# Altium schematic symbol library SCH-51943_B_Library.SchLib: 230 symbols (part 1 of 2)
Pins are listed as number, name and electrical type; pins without a type are passive.

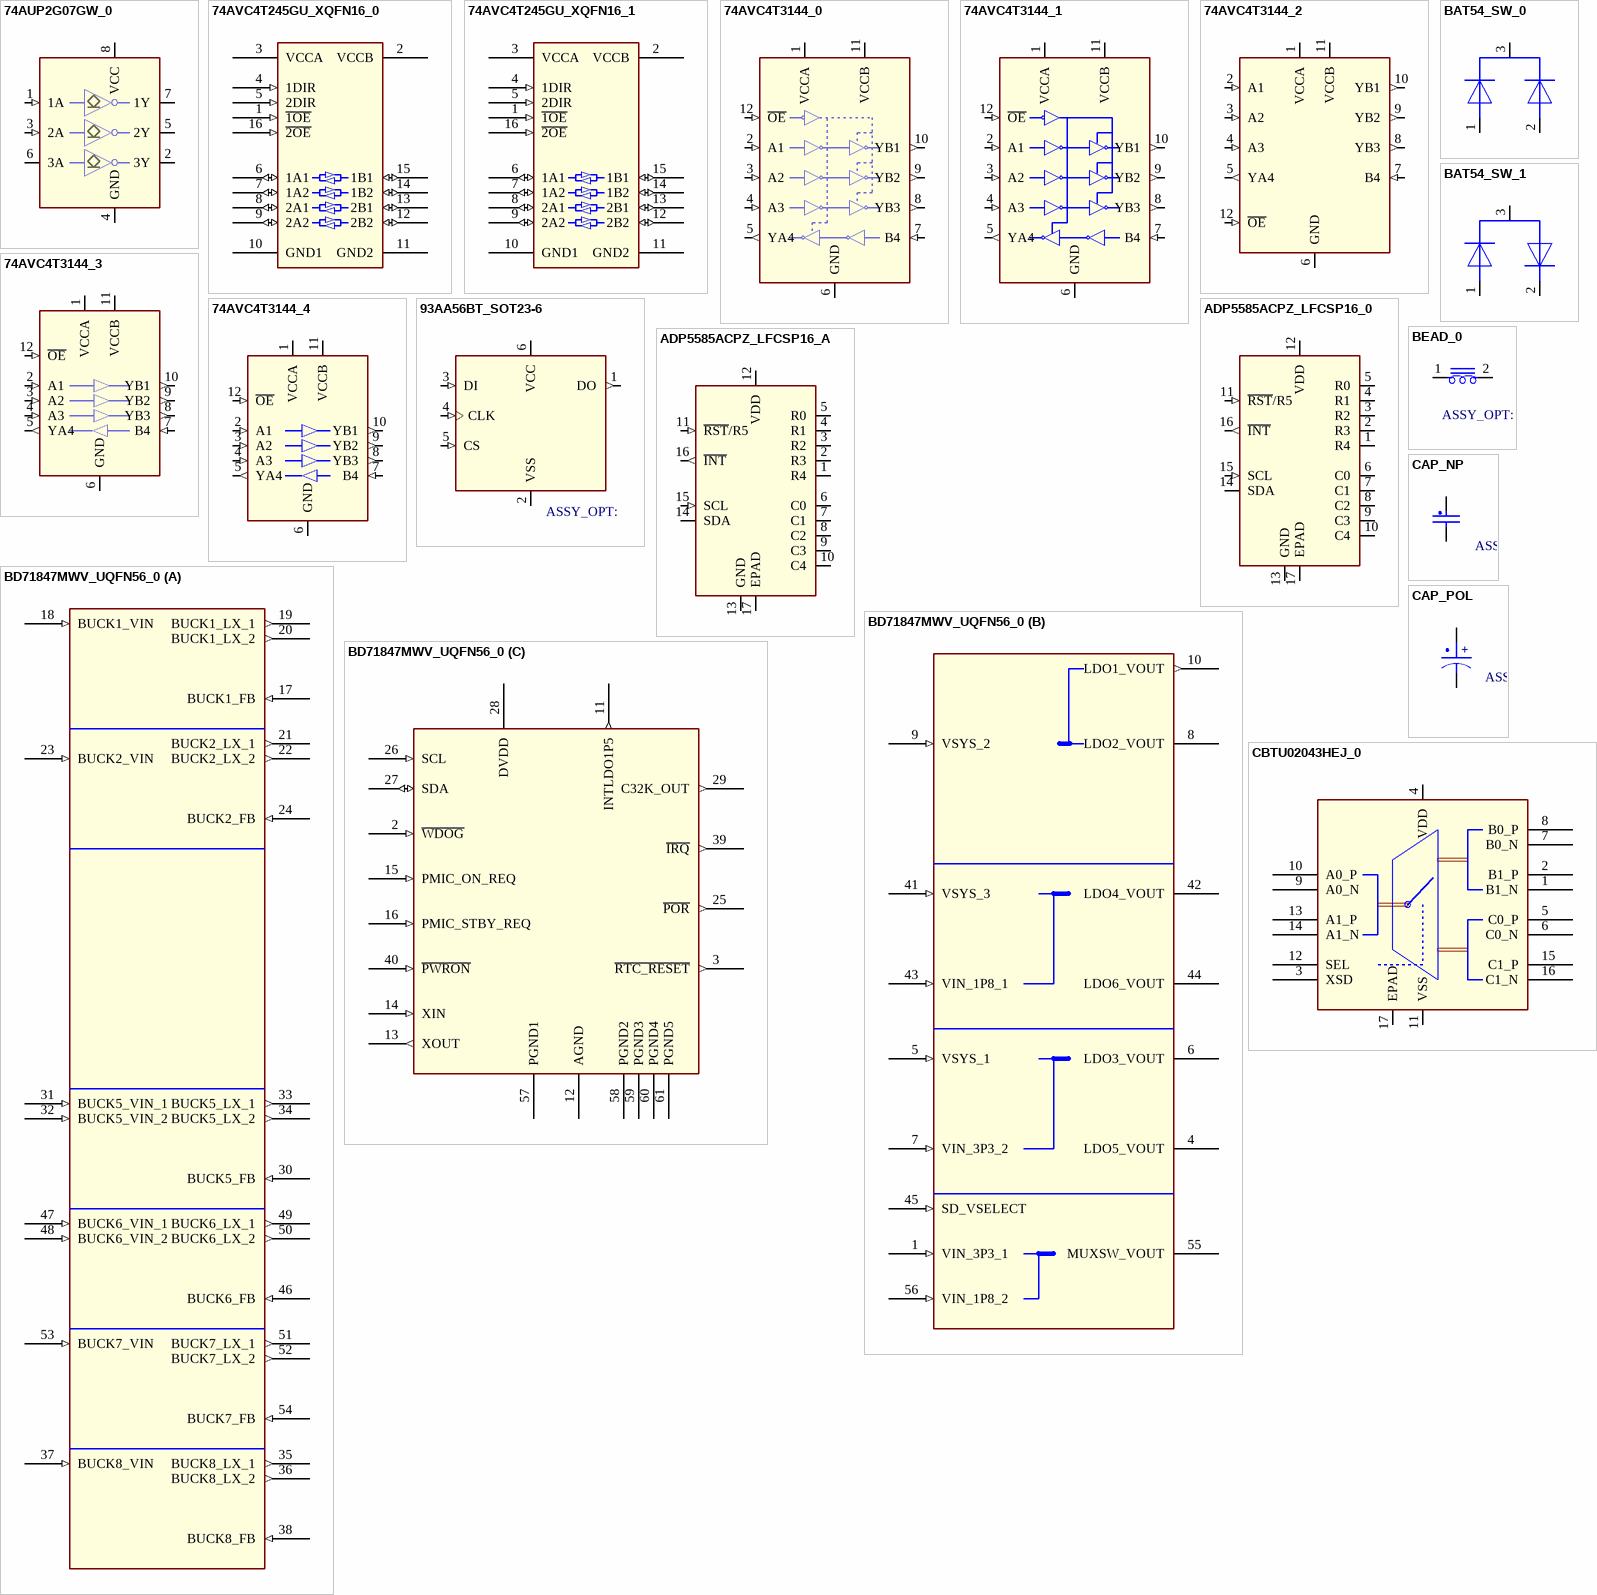
[diagram p0: symbols 74AUP2G07GW_0 to CBTU02043HEJ_0]

## 74AUP2G07GW_0
designator U?
CLASS: IC
footprint SOT363
pins: 1 1A (in), 2 3Y, 3 2A (in), 4 GND (power), 5 2Y, 6 3A, 7 1Y, 8 VCC

## 74AVC4T245GU_XQFN16_0
designator U?
CLASS: IC
pins: 1 ~{1OE} (in), 2 VCCB (power), 3 VCCA (power), 4 1DIR (in), 5 2DIR (in), 6 1A1 (io), 7 1A2 (io), 8 2A1 (io), 9 2A2 (io), 10 GND1 (power), 11 GND2 (power), 12 2B2 (io), 13 2B1 (io), 14 1B2 (io), 15 1B1 (io), 16 ~{2OE} (in)

## 74AVC4T245GU_XQFN16_1
designator U?
CLASS: IC
pins: 1 ~{1OE} (in), 2 VCCB (power), 3 VCCA (power), 4 1DIR (in), 5 2DIR (in), 6 1A1 (io), 7 1A2 (io), 8 2A1 (io), 9 2A2 (io), 10 GND1 (power), 11 GND2 (power), 12 2B2 (io), 13 2B1 (io), 14 1B2 (io), 15 1B1 (io), 16 ~{2OE} (in)

## 74AVC4T3144_0
designator U?
CLASS: IC
pins: 1 VCCA (power), 2 A1 (in), 3 A2 (in), 4 A3 (in), 5 YA4 (out), 6 GND (power), 7 B4 (in), 8 YB3 (out), 9 YB2 (out), 10 YB1 (out), 11 VCCB (power), 12 ~{OE} (in)

## 74AVC4T3144_1
designator U?
CLASS: IC
pins: 1 VCCA (power), 2 A1 (in), 3 A2 (in), 4 A3 (in), 5 YA4 (out), 6 GND (power), 7 B4 (in), 8 YB3 (out), 9 YB2 (out), 10 YB1 (out), 11 VCCB (power), 12 ~{OE} (in)

## 74AVC4T3144_2
designator U?
CLASS: IC
pins: 1 VCCA (power), 2 A1 (in), 3 A2 (in), 4 A3 (in), 5 YA4 (out), 6 GND (power), 7 B4 (in), 8 YB3 (out), 9 YB2 (out), 10 YB1 (out), 11 VCCB (power), 12 ~{OE} (in)

## 74AVC4T3144_3
designator U?
CLASS: IC
pins: 1 VCCA (power), 2 A1 (in), 3 A2 (in), 4 A3 (in), 5 YA4 (out), 6 GND (power), 7 B4 (in), 8 YB3 (out), 9 YB2 (out), 10 YB1 (out), 11 VCCB (power), 12 ~{OE} (in)

## 74AVC4T3144_4
designator U?
CLASS: IC
pins: 1 VCCA (power), 2 A1 (in), 3 A2 (in), 4 A3 (in), 5 YA4 (out), 6 GND (power), 7 B4 (in), 8 YB3 (out), 9 YB2 (out), 10 YB1 (out), 11 VCCB (power), 12 ~{OE} (in)

## 93AA56BT_SOT23-6
designator U?
CLASS: IC
pins: 1 DO (out), 2 VSS (power), 3 DI (in), 4 CLK (in), 5 CS (in), 6 VCC (power)

## ADP5585ACPZ_LFCSP16_0
designator U?
CLASS: IC
pins: 1 R4 (io), 2 R3 (io), 3 R2 (io), 4 R1 (io), 5 R0 (io), 6 C0 (io), 7 C1 (io), 8 C2 (io), 9 C3 (io), 10 C4 (io), 11 ~{RST}/R5 (in), 12 VDD (power), 13 GND (power), 14 SDA (io), 15 SCL (in), 16 ~{INT} (out), 17 EPAD

## ADP5585ACPZ_LFCSP16_A
designator U?
CLASS: IC
pins: 1 R4 (io), 2 R3 (io), 3 R2 (io), 4 R1 (io), 5 R0 (io), 6 C0 (io), 7 C1 (io), 8 C2 (io), 9 C3 (io), 10 C4 (io), 11 ~{RST}/R5 (in), 12 VDD (power), 13 GND (power), 14 SDA (io), 15 SCL (in), 16 ~{INT} (out), 17 EPAD

## BAT54_SW_0
designator D?
CLASS: IC
pins: 1 ANODE, 2 CATHODE, 3 CATHODE/ANODE

## BAT54_SW_1
designator D?
CLASS: IC
pins: 1 ANODE, 2 CATHODE, 3 CATHODE/ANODE

## BD71847MWV_UQFN56_0
designator U?
CLASS: IC
footprint BD71837MWV
part A pins: 17 BUCK1_FB (in), 18 BUCK1_VIN (in), 19 BUCK1_LX_1 (out), 20 BUCK1_LX_2 (out), 21 BUCK2_LX_1 (out), 22 BUCK2_LX_2 (out), 23 BUCK2_VIN (in), 24 BUCK2_FB (in), 30 BUCK5_FB (in), 31 BUCK5_VIN_1 (in), 32 BUCK5_VIN_2 (in), 33 BUCK5_LX_1 (out), 34 BUCK5_LX_2 (out), 35 BUCK8_LX_1 (out), 36 BUCK8_LX_2 (out), 37 BUCK8_VIN (in), 38 BUCK8_FB (in), 46 BUCK6_FB (in), 47 BUCK6_VIN_1 (in), 48 BUCK6_VIN_2 (in), 49 BUCK6_LX_1 (out), 50 BUCK6_LX_2 (out), 51 BUCK7_LX_1 (out), 52 BUCK7_LX_2 (out), 53 BUCK7_VIN (in), 54 BUCK7_FB (in)
part B pins: 1 VIN_3P3_1 (in), 4 LDO5_VOUT (power), 5 VSYS_1 (in), 6 LDO3_VOUT (power), 7 VIN_3P3_2 (in), 8 LDO2_VOUT (power), 9 VSYS_2 (in), 10 LDO1_VOUT (out), 41 VSYS_3 (in), 42 LDO4_VOUT (power), 43 VIN_1P8_1 (in), 44 LDO6_VOUT (power), 45 SD_VSELECT (in), 55 MUXSW_VOUT (power), 56 VIN_1P8_2 (in)
part C pins: 2 ~{WDOG} (in), 3 ~{RTC_RESET} (out), 11 INTLDO1P5 (out), 12 AGND (power), 13 XOUT (out), 14 XIN (in), 15 PMIC_ON_REQ (in), 16 PMIC_STBY_REQ (in), 25 ~{POR} (out), 26 SCL (in), 27 SDA (io), 28 DVDD (power), 29 C32K_OUT (out), 39 ~{IRQ} (out), 40 ~{PWRON} (in), 57 PGND1 (power), 58 PGND2 (power), 59 PGND3 (power), 60 PGND4 (power), 61 PGND5 (power)

## BEAD_0
designator L?
CLASS: DISCRETE
pins: 1, 2

## CAP_NP
designator C?
CLASS: DISCRETE
pins: 1, 2

## CAP_POL
designator C?
CLASS: DISCRETE
pins: 1, 2
text: +

## CBTU02043HEJ_0
designator U?
CLASS: IC
pins: 1 B1_N, 2 B1_P, 3 XSD, 4 VDD (power), 5 C0_P, 6 C0_N, 7 B0_N, 8 B0_P, 9 A0_N, 10 A0_P, 11 VSS (power), 12 SEL, 13 A1_P, 14 A1_N, 15 C1_P, 16 C1_N, 17 EPAD (power)

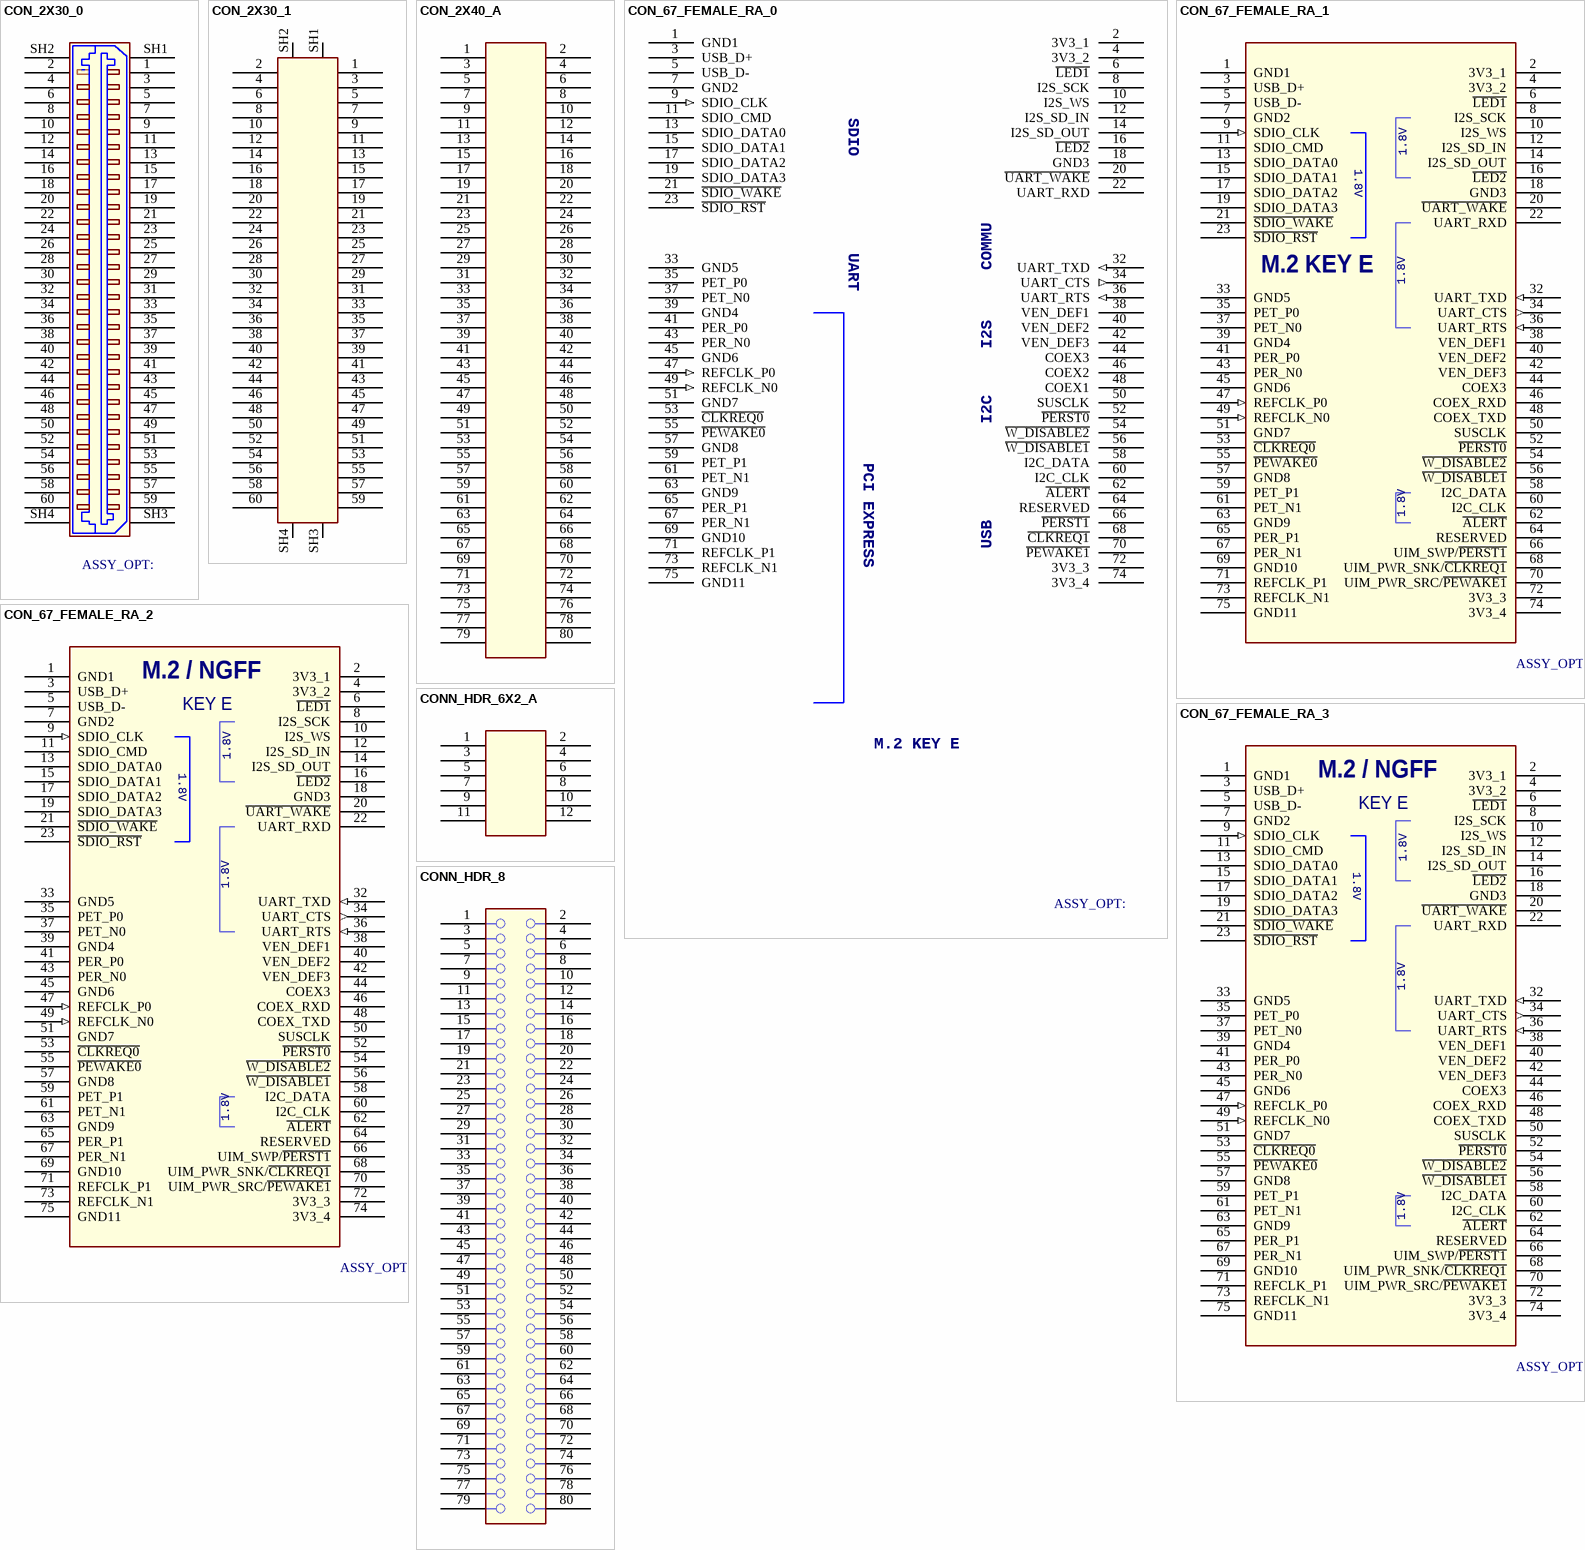
[diagram p1: symbols CON_2X30_0 to CONN_HDR_8]

## CON_2X30_0
designator J?
CLASS: IO
pins: 1, 2, 3, 4, 5, 6, 7, 8, 9, 10, 11, 12, 13, 14, 15, 16, 17, 18, 19, 20, 21, 22, 23, 24, 25, 26, 27, 28, 29, 30, 31, 32, 33, 34, 35, 36, 37, 38, 39, 40, 41, 42, 43, 44, 45, 46, 47, 48, 49, 50, 51, 52, 53, 54, 55, 56, 57, 58, 59, 60, SH1, SH2, SH3, SH4

## CON_2X30_1
designator J?
CLASS: IO
pins: 1, 2, 3, 4, 5, 6, 7, 8, 9, 10, 11, 12, 13, 14, 15, 16, 17, 18, 19, 20, 21, 22, 23, 24, 25, 26, 27, 28, 29, 30, 31, 32, 33, 34, 35, 36, 37, 38, 39, 40, 41, 42, 43, 44, 45, 46, 47, 48, 49, 50, 51, 52, 53, 54, 55, 56, 57, 58, 59, 60, SH1, SH2, SH3, SH4

## CON_2X40_A
designator J?
CLASS: IO
pins: 1 A1, 2 B1, 3 A2, 4 B2, 5 A3, 6 B3, 7 A4, 8 B4, 9 A5, 10 B5, 11 A6, 12 B6, 13 A7, 14 B7, 15 A8, 16 B8, 17 A9, 18 B9, 19 A10, 20 B10, 21 A11, 22 B11, 23 A12, 24 B12, 25 A13, 26 B13, 27 A14, 28 B14, 29 A15, 30 B15, 31 A16, 32 B16, 33 A17, 34 B17, 35 A18, 36 B18, 37 A19, 38 B19, 39 A20, 40 B20, 41 A21, 42 B21, 43 A22, 44 B22, 45 A23, 46 B23, 47 A24, 48 B24, 49 A25, 50 B25, 51 A26, 52 B26, 53 A27, 54 B27, 55 A28, 56 B28, 57 A29, 58 B29, 59 A30, 60 B30, 61 A31, 62 B31, 63 A32, 64 B32, 65 A33, 66 B33, 67 A34, 68 B34, 69 A35, 70 B35, 71 A36, 72 B36, 73 A37, 74 B37, 75 A38, 76 B38, 77 A39, 78 B39, 79 A40, 80 B40

## CON_67_FEMALE_RA_0
designator J?
CLASS: IO
pins: 1 GND1 (power), 2 3V3_1 (power), 3 USB_D+, 4 3V3_2 (power), 5 USB_D-, 6 ~{LED1}, 7 GND2 (power), 8 I2S_SCK, 9 SDIO_CLK (in), 10 I2S_WS, 11 SDIO_CMD, 12 I2S_SD_IN, 13 SDIO_DATA0, 14 I2S_SD_OUT, 15 SDIO_DATA1, 16 ~{LED2}, 17 SDIO_DATA2, 18 GND3 (power), 19 SDIO_DATA3, 20 ~{UART_WAKE}, 21 ~{SDIO_WAKE}, 22 UART_RXD, 23 ~{SDIO_RST}, 32 UART_TXD (in), 33 GND5 (power), 34 UART_CTS (out), 35 PET_P0, 36 UART_RTS (in), 37 PET_N0, 38 VEN_DEF1, 39 GND4 (power), 40 VEN_DEF2, 41 PER_P0, 42 VEN_DEF3, 43 PER_N0, 44 COEX3, 45 GND6 (power), 46 COEX2, 47 REFCLK_P0 (in), 48 COEX1, 49 REFCLK_N0 (in), 50 SUSCLK, 51 GND7 (power), 52 ~{PERST0}, 53 ~{CLKREQ0}, 54 ~{W_DISABLE2}, 55 ~{PEWAKE0}, 56 ~{W_DISABLE1}, 57 GND8 (power), 58 I2C_DATA, 59 PET_P1, 60 I2C_CLK, 61 PET_N1, 62 ~{ALERT}, 63 GND9 (power), 64 RESERVED, 65 PER_P1, 66 ~{PERST1}, 67 PER_N1, 68 ~{CLKREQ1}, 69 GND10 (power), 70 ~{PEWAKE1}, 71 REFCLK_P1, 72 3V3_3 (power), 73 REFCLK_N1, 74 3V3_4 (power), 75 GND11 (power)
text: SDIO; UART; COMMU; I2S; I2C; PCI EXPRESS; USB; M.2 KEY E

## CON_67_FEMALE_RA_1
designator J?
CLASS: IO
pins: 1 GND1 (power), 2 3V3_1 (power), 3 USB_D+, 4 3V3_2 (power), 5 USB_D-, 6 ~{LED1}, 7 GND2 (power), 8 I2S_SCK, 9 SDIO_CLK (in), 10 I2S_WS, 11 SDIO_CMD, 12 I2S_SD_IN, 13 SDIO_DATA0, 14 I2S_SD_OUT, 15 SDIO_DATA1, 16 ~{LED2}, 17 SDIO_DATA2, 18 GND3 (power), 19 SDIO_DATA3, 20 ~{UART_WAKE}, 21 ~{SDIO_WAKE}, 22 UART_RXD, 23 ~{SDIO_RST}, 32 UART_TXD (in), 33 GND5 (power), 34 UART_CTS (out), 35 PET_P0, 36 UART_RTS (in), 37 PET_N0, 38 VEN_DEF1, 39 GND4 (power), 40 VEN_DEF2, 41 PER_P0, 42 VEN_DEF3, 43 PER_N0, 44 COEX3, 45 GND6 (power), 46 COEX_RXD, 47 REFCLK_P0 (in), 48 COEX_TXD, 49 REFCLK_N0 (in), 50 SUSCLK, 51 GND7 (power), 52 ~{PERST0}, 53 ~{CLKREQ0}, 54 ~{W_DISABLE2}, 55 ~{PEWAKE0}, 56 ~{W_DISABLE1}, 57 GND8 (power), 58 I2C_DATA, 59 PET_P1, 60 I2C_CLK, 61 PET_N1, 62 ~{ALERT}, 63 GND9 (power), 64 RESERVED, 65 PER_P1, 66 UIM_SWP/~{PERST1}, 67 PER_N1, 68 UIM_PWR_SNK/~{CLKREQ1}, 69 GND10 (power), 70 UIM_PWR_SRC/~{PEWAKE1}, 71 REFCLK_P1, 72 3V3_3 (power), 73 REFCLK_N1, 74 3V3_4 (power), 75 GND11 (power)
text: 1.8V; M.2 KEY E

## CON_67_FEMALE_RA_2
designator J?
CLASS: IO
pins: 1 GND1 (power), 2 3V3_1 (power), 3 USB_D+, 4 3V3_2 (power), 5 USB_D-, 6 ~{LED1}, 7 GND2 (power), 8 I2S_SCK, 9 SDIO_CLK (in), 10 I2S_WS, 11 SDIO_CMD, 12 I2S_SD_IN, 13 SDIO_DATA0, 14 I2S_SD_OUT, 15 SDIO_DATA1, 16 ~{LED2}, 17 SDIO_DATA2, 18 GND3 (power), 19 SDIO_DATA3, 20 ~{UART_WAKE}, 21 ~{SDIO_WAKE}, 22 UART_RXD, 23 ~{SDIO_RST}, 32 UART_TXD (in), 33 GND5 (power), 34 UART_CTS (out), 35 PET_P0, 36 UART_RTS (in), 37 PET_N0, 38 VEN_DEF1, 39 GND4 (power), 40 VEN_DEF2, 41 PER_P0, 42 VEN_DEF3, 43 PER_N0, 44 COEX3, 45 GND6 (power), 46 COEX_RXD, 47 REFCLK_P0 (in), 48 COEX_TXD, 49 REFCLK_N0 (in), 50 SUSCLK, 51 GND7 (power), 52 ~{PERST0}, 53 ~{CLKREQ0}, 54 ~{W_DISABLE2}, 55 ~{PEWAKE0}, 56 ~{W_DISABLE1}, 57 GND8 (power), 58 I2C_DATA, 59 PET_P1, 60 I2C_CLK, 61 PET_N1, 62 ~{ALERT}, 63 GND9 (power), 64 RESERVED, 65 PER_P1, 66 UIM_SWP/~{PERST1}, 67 PER_N1, 68 UIM_PWR_SNK/~{CLKREQ1}, 69 GND10 (power), 70 UIM_PWR_SRC/~{PEWAKE1}, 71 REFCLK_P1, 72 3V3_3 (power), 73 REFCLK_N1, 74 3V3_4 (power), 75 GND11 (power)
text: M.2 / NGFF; KEY E; 1.8V

## CON_67_FEMALE_RA_3
designator J?
CLASS: IO
pins: 1 GND1 (power), 2 3V3_1 (power), 3 USB_D+, 4 3V3_2 (power), 5 USB_D-, 6 ~{LED1}, 7 GND2 (power), 8 I2S_SCK, 9 SDIO_CLK (in), 10 I2S_WS, 11 SDIO_CMD, 12 I2S_SD_IN, 13 SDIO_DATA0, 14 I2S_SD_OUT, 15 SDIO_DATA1, 16 ~{LED2}, 17 SDIO_DATA2, 18 GND3 (power), 19 SDIO_DATA3, 20 ~{UART_WAKE}, 21 ~{SDIO_WAKE}, 22 UART_RXD, 23 ~{SDIO_RST}, 32 UART_TXD (in), 33 GND5 (power), 34 UART_CTS (out), 35 PET_P0, 36 UART_RTS (in), 37 PET_N0, 38 VEN_DEF1, 39 GND4 (power), 40 VEN_DEF2, 41 PER_P0, 42 VEN_DEF3, 43 PER_N0, 44 COEX3, 45 GND6 (power), 46 COEX_RXD, 47 REFCLK_P0 (in), 48 COEX_TXD, 49 REFCLK_N0 (in), 50 SUSCLK, 51 GND7 (power), 52 ~{PERST0}, 53 ~{CLKREQ0}, 54 ~{W_DISABLE2}, 55 ~{PEWAKE0}, 56 ~{W_DISABLE1}, 57 GND8 (power), 58 I2C_DATA, 59 PET_P1, 60 I2C_CLK, 61 PET_N1, 62 ~{ALERT}, 63 GND9 (power), 64 RESERVED, 65 PER_P1, 66 UIM_SWP/~{PERST1}, 67 PER_N1, 68 UIM_PWR_SNK/~{CLKREQ1}, 69 GND10 (power), 70 UIM_PWR_SRC/~{PEWAKE1}, 71 REFCLK_P1, 72 3V3_3 (power), 73 REFCLK_N1, 74 3V3_4 (power), 75 GND11 (power)
text: M.2 / NGFF; KEY E; 1.8V

## CONN_HDR_6X2_A
designator J?
CLASS: IO
pins: 1 A1, 2 B1, 3 A2, 4 B2, 5 A3, 6 B3, 7 A4, 8 B4, 9 A5, 10 B5, 11 A6, 12 B6

## CONN_HDR_8
designator J?
CLASS: IO
pins: 1 A1, 2 B1, 3 A2, 4 B2, 5 A3, 6 B3, 7 A4, 8 B4, 9 A5, 10 B5, 11 A6, 12 B6, 13 A7, 14 B7, 15 A8, 16 B8, 17 A9, 18 B9, 19 A10, 20 B10, 21 A11, 22 B11, 23 A12, 24 B12, 25 A13, 26 B13, 27 A14, 28 B14, 29 A15, 30 B15, 31 A16, 32 B16, 33 A17, 34 B17, 35 A18, 36 B18, 37 A19, 38 B19, 39 A20, 40 B20, 41 A21, 42 B21, 43 A22, 44 B22, 45 A23, 46 B23, 47 A24, 48 B24, 49 A25, 50 B25, 51 A26, 52 B26, 53 A27, 54 B27, 55 A28, 56 B28, 57 A29, 58 B29, 59 A30, 60 B30, 61 A31, 62 B31, 63 A32, 64 B32, 65 A33, 66 B33, 67 A34, 68 B34, 69 A35, 70 B35, 71 A36, 72 B36, 73 A37, 74 B37, 75 A38, 76 B38, 77 A39, 78 B39, 79 A40, 80 B40

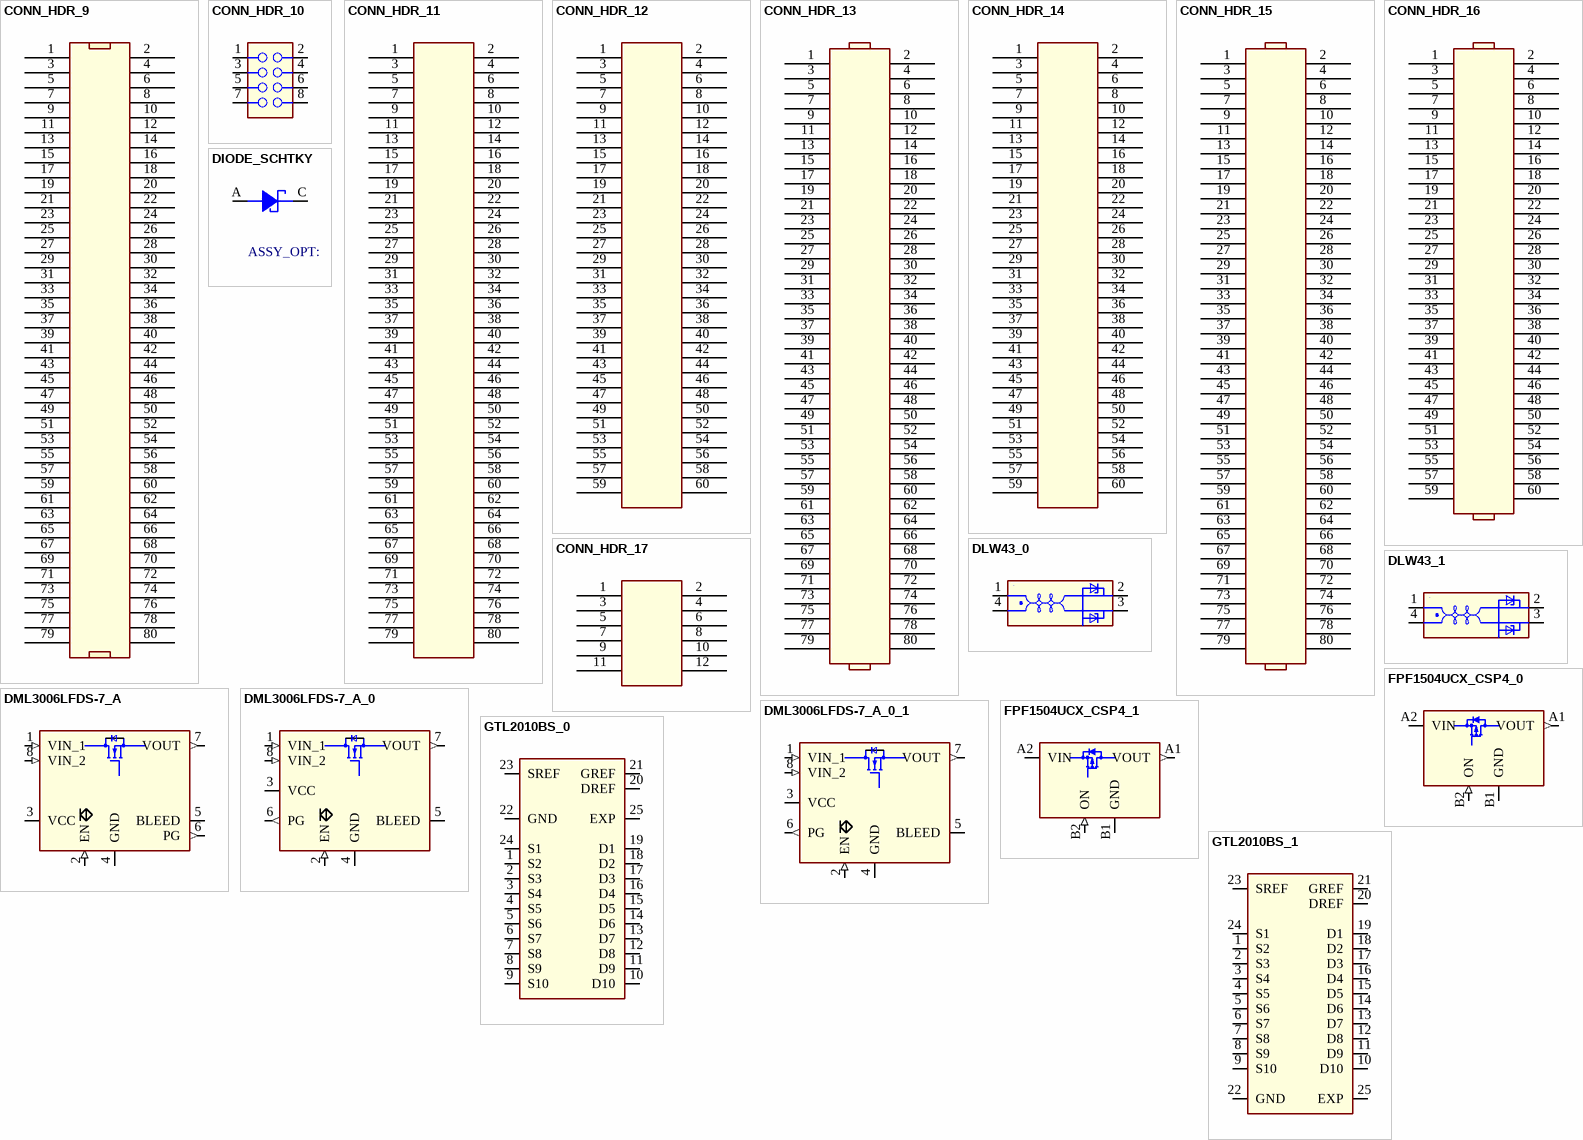
[diagram p2: symbols CONN_HDR_9 to GTL2010BS_1]

## CONN_HDR_9
designator J?
CLASS: IO
pins: 1 A1, 2 B1, 3 A2, 4 B2, 5 A3, 6 B3, 7 A4, 8 B4, 9 A5, 10 B5, 11 A6, 12 B6, 13 A7, 14 B7, 15 A8, 16 B8, 17 A9, 18 B9, 19 A10, 20 B10, 21 A11, 22 B11, 23 A12, 24 B12, 25 A13, 26 B13, 27 A14, 28 B14, 29 A15, 30 B15, 31 A16, 32 B16, 33 A17, 34 B17, 35 A18, 36 B18, 37 A19, 38 B19, 39 A20, 40 B20, 41 A21, 42 B21, 43 A22, 44 B22, 45 A23, 46 B23, 47 A24, 48 B24, 49 A25, 50 B25, 51 A26, 52 B26, 53 A27, 54 B27, 55 A28, 56 B28, 57 A29, 58 B29, 59 A30, 60 B30, 61 A31, 62 B31, 63 A32, 64 B32, 65 A33, 66 B33, 67 A34, 68 B34, 69 A35, 70 B35, 71 A36, 72 B36, 73 A37, 74 B37, 75 A38, 76 B38, 77 A39, 78 B39, 79 A40, 80 B40

## CONN_HDR_10
designator J?
CLASS: IO
pins: 1, 2, 3, 4, 5, 6, 7, 8

## CONN_HDR_11
designator J?
CLASS: IO
pins: 1 A1, 2 B1, 3 A2, 4 B2, 5 A3, 6 B3, 7 A4, 8 B4, 9 A5, 10 B5, 11 A6, 12 B6, 13 A7, 14 B7, 15 A8, 16 B8, 17 A9, 18 B9, 19 A10, 20 B10, 21 A11, 22 B11, 23 A12, 24 B12, 25 A13, 26 B13, 27 A14, 28 B14, 29 A15, 30 B15, 31 A16, 32 B16, 33 A17, 34 B17, 35 A18, 36 B18, 37 A19, 38 B19, 39 A20, 40 B20, 41 A21, 42 B21, 43 A22, 44 B22, 45 A23, 46 B23, 47 A24, 48 B24, 49 A25, 50 B25, 51 A26, 52 B26, 53 A27, 54 B27, 55 A28, 56 B28, 57 A29, 58 B29, 59 A30, 60 B30, 61 A31, 62 B31, 63 A32, 64 B32, 65 A33, 66 B33, 67 A34, 68 B34, 69 A35, 70 B35, 71 A36, 72 B36, 73 A37, 74 B37, 75 A38, 76 B38, 77 A39, 78 B39, 79 A40, 80 B40

## CONN_HDR_12
designator J?
CLASS: IO
pins: 1 A1, 2 B1, 3 A2, 4 B2, 5 A3, 6 B3, 7 A4, 8 B4, 9 A5, 10 B5, 11 A6, 12 B6, 13 A7, 14 B7, 15 A8, 16 B8, 17 A9, 18 B9, 19 A10, 20 B10, 21 A11, 22 B11, 23 A12, 24 B12, 25 A13, 26 B13, 27 A14, 28 B14, 29 A15, 30 B15, 31 A16, 32 B16, 33 A17, 34 B17, 35 A18, 36 B18, 37 A19, 38 B19, 39 A20, 40 B20, 41 A21, 42 B21, 43 A22, 44 B22, 45 A23, 46 B23, 47 A24, 48 B24, 49 A25, 50 B25, 51 A26, 52 B26, 53 A27, 54 B27, 55 A28, 56 B28, 57 A29, 58 B29, 59 A30, 60 B30

## CONN_HDR_13
designator J?
CLASS: IO
pins: 1 A1, 2 B1, 3 A2, 4 B2, 5 A3, 6 B3, 7 A4, 8 B4, 9 A5, 10 B5, 11 A6, 12 B6, 13 A7, 14 B7, 15 A8, 16 B8, 17 A9, 18 B9, 19 A10, 20 B10, 21 A11, 22 B11, 23 A12, 24 B12, 25 A13, 26 B13, 27 A14, 28 B14, 29 A15, 30 B15, 31 A16, 32 B16, 33 A17, 34 B17, 35 A18, 36 B18, 37 A19, 38 B19, 39 A20, 40 B20, 41 A21, 42 B21, 43 A22, 44 B22, 45 A23, 46 B23, 47 A24, 48 B24, 49 A25, 50 B25, 51 A26, 52 B26, 53 A27, 54 B27, 55 A28, 56 B28, 57 A29, 58 B29, 59 A30, 60 B30, 61 A31, 62 B31, 63 A32, 64 B32, 65 A33, 66 B33, 67 A34, 68 B34, 69 A35, 70 B35, 71 A36, 72 B36, 73 A37, 74 B37, 75 A38, 76 B38, 77 A39, 78 B39, 79 A40, 80 B40

## CONN_HDR_14
designator J?
CLASS: IO
pins: 1 A1, 2 B1, 3 A2, 4 B2, 5 A3, 6 B3, 7 A4, 8 B4, 9 A5, 10 B5, 11 A6, 12 B6, 13 A7, 14 B7, 15 A8, 16 B8, 17 A9, 18 B9, 19 A10, 20 B10, 21 A11, 22 B11, 23 A12, 24 B12, 25 A13, 26 B13, 27 A14, 28 B14, 29 A15, 30 B15, 31 A16, 32 B16, 33 A17, 34 B17, 35 A18, 36 B18, 37 A19, 38 B19, 39 A20, 40 B20, 41 A21, 42 B21, 43 A22, 44 B22, 45 A23, 46 B23, 47 A24, 48 B24, 49 A25, 50 B25, 51 A26, 52 B26, 53 A27, 54 B27, 55 A28, 56 B28, 57 A29, 58 B29, 59 A30, 60 B30

## CONN_HDR_15
designator J?
CLASS: IO
pins: 1 A1, 2 B1, 3 A2, 4 B2, 5 A3, 6 B3, 7 A4, 8 B4, 9 A5, 10 B5, 11 A6, 12 B6, 13 A7, 14 B7, 15 A8, 16 B8, 17 A9, 18 B9, 19 A10, 20 B10, 21 A11, 22 B11, 23 A12, 24 B12, 25 A13, 26 B13, 27 A14, 28 B14, 29 A15, 30 B15, 31 A16, 32 B16, 33 A17, 34 B17, 35 A18, 36 B18, 37 A19, 38 B19, 39 A20, 40 B20, 41 A21, 42 B21, 43 A22, 44 B22, 45 A23, 46 B23, 47 A24, 48 B24, 49 A25, 50 B25, 51 A26, 52 B26, 53 A27, 54 B27, 55 A28, 56 B28, 57 A29, 58 B29, 59 A30, 60 B30, 61 A31, 62 B31, 63 A32, 64 B32, 65 A33, 66 B33, 67 A34, 68 B34, 69 A35, 70 B35, 71 A36, 72 B36, 73 A37, 74 B37, 75 A38, 76 B38, 77 A39, 78 B39, 79 A40, 80 B40

## CONN_HDR_16
designator J?
CLASS: IO
pins: 1 A1, 2 B1, 3 A2, 4 B2, 5 A3, 6 B3, 7 A4, 8 B4, 9 A5, 10 B5, 11 A6, 12 B6, 13 A7, 14 B7, 15 A8, 16 B8, 17 A9, 18 B9, 19 A10, 20 B10, 21 A11, 22 B11, 23 A12, 24 B12, 25 A13, 26 B13, 27 A14, 28 B14, 29 A15, 30 B15, 31 A16, 32 B16, 33 A17, 34 B17, 35 A18, 36 B18, 37 A19, 38 B19, 39 A20, 40 B20, 41 A21, 42 B21, 43 A22, 44 B22, 45 A23, 46 B23, 47 A24, 48 B24, 49 A25, 50 B25, 51 A26, 52 B26, 53 A27, 54 B27, 55 A28, 56 B28, 57 A29, 58 B29, 59 A30, 60 B30

## CONN_HDR_17
designator J?
CLASS: IO
pins: 1 A1, 2 B1, 3 A2, 4 B2, 5 A3, 6 B3, 7 A4, 8 B4, 9 A5, 10 B5, 11 A6, 12 B6

## DIODE_SCHTKY
designator D?
CLASS: IC
pins: A, C

## DLW43_0
designator L?
CLASS: DISCRETE
pins: 1, 2, 3, 4

## DLW43_1
designator L?
CLASS: DISCRETE
pins: 1, 2, 3, 4

## DML3006LFDS-7_A
designator U?
CLASS: IC
pins: 1 VIN_1 (in), 2 EN (in), 3 VCC (power), 4 GND (power), 5 BLEED, 6 PG (out), 7 VOUT (out), 8 VIN_2 (in)

## DML3006LFDS-7_A_0
designator U?
CLASS: IC
pins: 1 VIN_1 (in), 2 EN (in), 3 VCC (power), 4 GND (power), 5 BLEED, 6 PG (out), 7 VOUT (out), 8 VIN_2 (in)

## DML3006LFDS-7_A_0_1
designator U?
CLASS: IC
pins: 1 VIN_1 (in), 2 EN (in), 3 VCC (power), 4 GND (power), 5 BLEED, 6 PG (out), 7 VOUT (out), 8 VIN_2 (in)

## FPF1504UCX_CSP4_0
designator U?
CLASS: IC
pins: A1 VOUT (out), A2 VIN (power), B1 GND (power), B2 ON (in)

## FPF1504UCX_CSP4_1
designator U?
CLASS: IC
pins: A1 VOUT (out), A2 VIN (power), B1 GND (power), B2 ON (in)

## GTL2010BS_0
designator U?
CLASS: IC
pins: 1 S2 (io), 2 S3 (io), 3 S4 (io), 4 S5 (io), 5 S6 (io), 6 S7 (io), 7 S8 (io), 8 S9 (io), 9 S10 (io), 10 D10 (io), 11 D9 (io), 12 D8 (io), 13 D7 (io), 14 D6 (io), 15 D5 (io), 16 D4 (io), 17 D3 (io), 18 D2 (io), 19 D1 (io), 20 DREF, 21 GREF, 22 GND (power), 23 SREF, 24 S1 (io), 25 EXP (power)

## GTL2010BS_1
designator U?
CLASS: IC
pins: 1 S2 (io), 2 S3 (io), 3 S4 (io), 4 S5 (io), 5 S6 (io), 6 S7 (io), 7 S8 (io), 8 S9 (io), 9 S10 (io), 10 D10 (io), 11 D9 (io), 12 D8 (io), 13 D7 (io), 14 D6 (io), 15 D5 (io), 16 D4 (io), 17 D3 (io), 18 D2 (io), 19 D1 (io), 20 DREF, 21 GREF, 22 GND (power), 23 SREF, 24 S1 (io), 25 EXP (power)

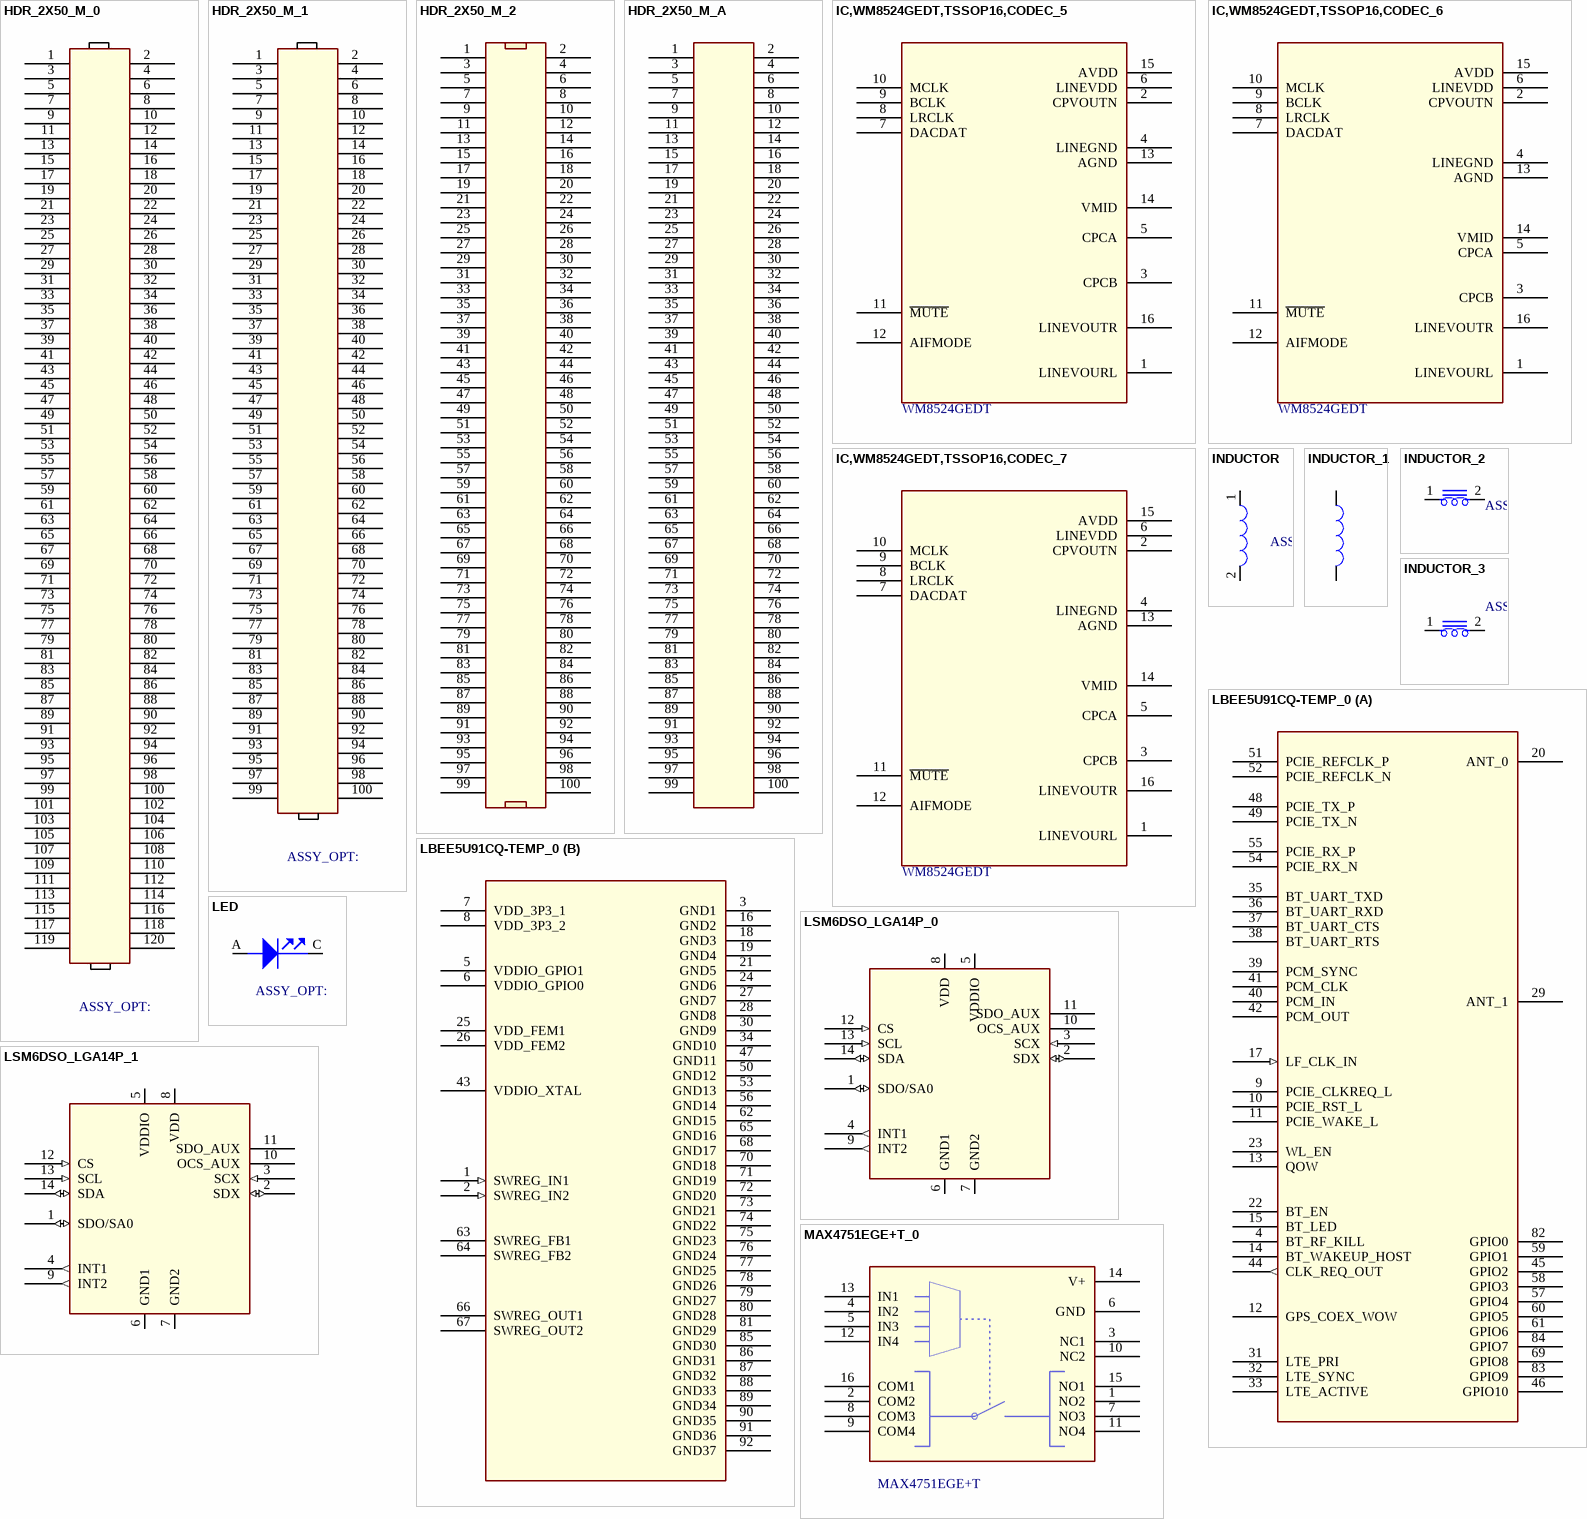
[diagram p3: symbols HDR_2X50_M_0 to MAX4751EGE+T_0]

## HDR_2X50_M_0
designator J?
CLASS: IO
pins: 1, 2, 3, 4, 5, 6, 7, 8, 9, 10, 11, 12, 13, 14, 15, 16, 17, 18, 19, 20, 21, 22, 23, 24, 25, 26, 27, 28, 29, 30, 31, 32, 33, 34, 35, 36, 37, 38, 39, 40, 41, 42, 43, 44, 45, 46, 47, 48, 49, 50, 51, 52, 53, 54, 55, 56, 57, 58, 59, 60, 61, 62, 63, 64, 65, 66, 67, 68, 69, 70, 71, 72, 73, 74, 75, 76, 77, 78, 79, 80, 81, 82, 83, 84, 85, 86, 87, 88, 89, 90, 91, 92, 93, 94, 95, 96, 97, 98, 99, 100, 101, 102, 103, 104, 105, 106, 107, 108, 109, 110, 111, 112, 113, 114, 115, 116, 117, 118, 119, 120

## HDR_2X50_M_1
designator J?
CLASS: IO
pins: 1, 2, 3, 4, 5, 6, 7, 8, 9, 10, 11, 12, 13, 14, 15, 16, 17, 18, 19, 20, 21, 22, 23, 24, 25, 26, 27, 28, 29, 30, 31, 32, 33, 34, 35, 36, 37, 38, 39, 40, 41, 42, 43, 44, 45, 46, 47, 48, 49, 50, 51, 52, 53, 54, 55, 56, 57, 58, 59, 60, 61, 62, 63, 64, 65, 66, 67, 68, 69, 70, 71, 72, 73, 74, 75, 76, 77, 78, 79, 80, 81, 82, 83, 84, 85, 86, 87, 88, 89, 90, 91, 92, 93, 94, 95, 96, 97, 98, 99, 100

## HDR_2X50_M_2
designator J?
CLASS: IO
pins: 1, 2, 3, 4, 5, 6, 7, 8, 9, 10, 11, 12, 13, 14, 15, 16, 17, 18, 19, 20, 21, 22, 23, 24, 25, 26, 27, 28, 29, 30, 31, 32, 33, 34, 35, 36, 37, 38, 39, 40, 41, 42, 43, 44, 45, 46, 47, 48, 49, 50, 51, 52, 53, 54, 55, 56, 57, 58, 59, 60, 61, 62, 63, 64, 65, 66, 67, 68, 69, 70, 71, 72, 73, 74, 75, 76, 77, 78, 79, 80, 81, 82, 83, 84, 85, 86, 87, 88, 89, 90, 91, 92, 93, 94, 95, 96, 97, 98, 99, 100

## HDR_2X50_M_A
designator J?
CLASS: IO
pins: 1, 2, 3, 4, 5, 6, 7, 8, 9, 10, 11, 12, 13, 14, 15, 16, 17, 18, 19, 20, 21, 22, 23, 24, 25, 26, 27, 28, 29, 30, 31, 32, 33, 34, 35, 36, 37, 38, 39, 40, 41, 42, 43, 44, 45, 46, 47, 48, 49, 50, 51, 52, 53, 54, 55, 56, 57, 58, 59, 60, 61, 62, 63, 64, 65, 66, 67, 68, 69, 70, 71, 72, 73, 74, 75, 76, 77, 78, 79, 80, 81, 82, 83, 84, 85, 86, 87, 88, 89, 90, 91, 92, 93, 94, 95, 96, 97, 98, 99, 100

## IC,WM8524GEDT,TSSOP16,CODEC_5
designator U?, comment WM8524GEDT
IC,WM8524GEDT,TSSOP16,24-bit 192kHz Stereo DAC; Vendor: Wolfson; VPN: WM8524GEDT
footprint TSSOP16
pins: 1 LINEVOURL, 2 CPVOUTN, 3 CPCB, 4 LINEGND, 5 CPCA, 6 LINEVDD, 7 DACDAT, 8 LRCLK, 9 BCLK, 10 MCLK, 11 ~{MUTE}, 12 AIFMODE, 13 AGND, 14 VMID, 15 AVDD, 16 LINEVOUTR

## IC,WM8524GEDT,TSSOP16,CODEC_6
designator U?, comment WM8524GEDT
IC,WM8524GEDT,TSSOP16,24-bit 192kHz Stereo DAC; Vendor: Wolfson; VPN: WM8524GEDT
footprint TSSOP16
pins: 1 LINEVOURL, 2 CPVOUTN, 3 CPCB, 4 LINEGND, 5 CPCA, 6 LINEVDD, 7 DACDAT, 8 LRCLK, 9 BCLK, 10 MCLK, 11 ~{MUTE}, 12 AIFMODE, 13 AGND, 14 VMID, 15 AVDD, 16 LINEVOUTR

## IC,WM8524GEDT,TSSOP16,CODEC_7
designator U?, comment WM8524GEDT
IC,WM8524GEDT,TSSOP16,24-bit 192kHz Stereo DAC; Vendor: Wolfson; VPN: WM8524GEDT
footprint TSSOP16
pins: 1 LINEVOURL, 2 CPVOUTN, 3 CPCB, 4 LINEGND, 5 CPCA, 6 LINEVDD, 7 DACDAT, 8 LRCLK, 9 BCLK, 10 MCLK, 11 ~{MUTE}, 12 AIFMODE, 13 AGND, 14 VMID, 15 AVDD, 16 LINEVOUTR

## INDUCTOR
designator L?
CLASS: DISCRETE
pins: 1, 2

## INDUCTOR_1
designator L?
CLASS: DISCRETE
pins: 1, 2

## INDUCTOR_2
designator L?
CLASS: DISCRETE
pins: 1, 2

## INDUCTOR_3
designator L?
CLASS: DISCRETE
pins: 1, 2

## LBEE5U91CQ-TEMP_0
designator U?
SWAP_INFO: (S1+S2); SPLIT_INST: TRUE
footprint SiP92_11x8p8mm
part A pins: 4 BT_RF_KILL, 9 PCIE_CLKREQ_L, 10 PCIE_RST_L, 11 PCIE_WAKE_L, 12 GPS_COEX_WOW, 13 QOW, 14 BT_WAKEUP_HOST, 15 BT_LED, 17 LF_CLK_IN (in), 20 ANT_0, 22 BT_EN, 23 WL_EN, 29 ANT_1, 31 LTE_PRI, 32 LTE_SYNC, 33 LTE_ACTIVE, 35 BT_UART_TXD, 36 BT_UART_RXD, 37 BT_UART_CTS, 38 BT_UART_RTS, 39 PCM_SYNC, 40 PCM_IN, 41 PCM_CLK, 42 PCM_OUT, 44 CLK_REQ_OUT (out), 45 GPIO2, 46 GPIO10, 48 PCIE_TX_P, 49 PCIE_TX_N, 51 PCIE_REFCLK_P, 52 PCIE_REFCLK_N, 54 PCIE_RX_N, 55 PCIE_RX_P, 57 GPIO4, 58 GPIO3, 59 GPIO1, 60 GPIO5, 61 GPIO6, 69 GPIO8, 82 GPIO0, 83 GPIO9, 84 GPIO7
part B pins: 1 SWREG_IN1 (in), 2 SWREG_IN2 (in), 3 GND1 (power), 5 VDDIO_GPIO1 (power), 6 VDDIO_GPIO0 (power), 7 VDD_3P3_1 (power), 8 VDD_3P3_2 (power), 16 GND2 (power), 18 GND3 (power), 19 GND4 (power), 21 GND5 (power), 24 GND6 (power), 25 VDD_FEM1 (power), 26 VDD_FEM2 (power), 27 GND7 (power), 28 GND8 (power), 30 GND9 (power), 34 GND10 (power), 43 VDDIO_XTAL (power), 47 GND11 (power), 50 GND12 (power), 53 GND13 (power), 56 GND14 (power), 62 GND15 (power), 63 SWREG_FB1, 64 SWREG_FB2, 65 GND16 (power), 66 SWREG_OUT1, 67 SWREG_OUT2, 68 GND17 (power), 70 GND18 (power), 71 GND19 (power), 72 GND20 (power), 73 GND21 (power), 74 GND22 (power), 75 GND23 (power), 76 GND24 (power), 77 GND25 (power), 78 GND26 (power), 79 GND27 (power), 80 GND28 (power), 81 GND29 (power), 85 GND30 (power), 86 GND31 (power), 87 GND32 (power), 88 GND33 (power), 89 GND34 (power), 90 GND35 (power), 91 GND36 (power), 92 GND37 (power)

## LED
designator D?
CLASS: IC
pins: A ANODE, C CATHODE

## LSM6DSO_LGA14P_0
designator U?
CLASS: IC
pins: 1 SDO/SA0 (io), 2 SDX (io), 3 SCX (in), 4 INT1 (out), 5 VDDIO (power), 6 GND1 (power), 7 GND2 (power), 8 VDD (power), 9 INT2 (out), 10 OCS_AUX, 11 SDO_AUX, 12 CS (in), 13 SCL (in), 14 SDA (io)

## LSM6DSO_LGA14P_1
designator U?
CLASS: IC
pins: 1 SDO/SA0 (io), 2 SDX (io), 3 SCX (in), 4 INT1 (out), 5 VDDIO (power), 6 GND1 (power), 7 GND2 (power), 8 VDD (power), 9 INT2 (out), 10 OCS_AUX, 11 SDO_AUX, 12 CS (in), 13 SCL (in), 14 SDA (io)

## MAX4751EGE+T_0
designator U?, comment MAX4751EGE+T
footprint qfn16_0p5_3x3mm
pins: 1 NO2, 2 COM2, 3 NC1, 4 IN2, 5 IN3, 6 GND, 7 NO3, 8 COM3, 9 COM4, 10 NC2, 11 NO4, 12 IN4, 13 IN1, 14 V+, 15 NO1, 16 COM1

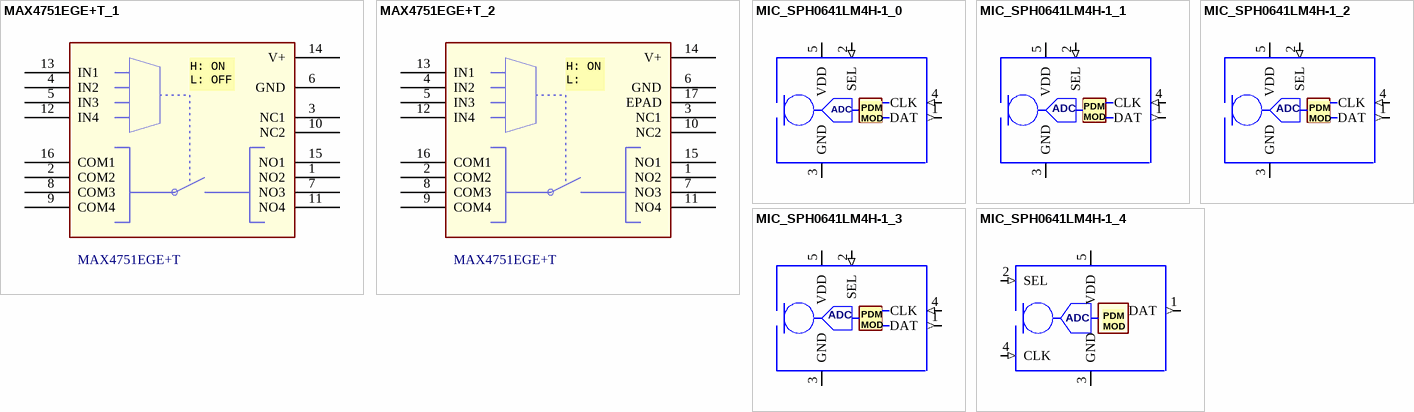
[diagram p4: symbols MAX4751EGE+T_1 to MIC_SPH0641LM4H-1_4]

## MAX4751EGE+T_1
designator U?, comment MAX4751EGE+T
footprint qfn16_0p5_3x3mm
pins: 1 NO2, 2 COM2, 3 NC1, 4 IN2, 5 IN3, 6 GND, 7 NO3, 8 COM3, 9 COM4, 10 NC2, 11 NO4, 12 IN4, 13 IN1, 14 V+, 15 NO1, 16 COM1
text: H: ON / L: OFF

## MAX4751EGE+T_2
designator U?, comment MAX4751EGE+T
footprint qfn16_0p5_3x3mm
pins: 1 NO2, 2 COM2, 3 NC1, 4 IN2, 5 IN3, 6 GND, 7 NO3, 8 COM3, 9 COM4, 10 NC2, 11 NO4, 12 IN4, 13 IN1, 14 V+, 15 NO1, 16 COM1, 17 EPAD
text: H: ON / L: OFF

## MIC_SPH0641LM4H-1_0
designator U?
CLASS: IC
pins: 1 DAT (out), 2 SEL (in), 3 GND (power), 4 CLK (in), 5 VDD (power)
text: PDM / MOD; ADC

## MIC_SPH0641LM4H-1_1
designator U?
CLASS: IC
pins: 1 DAT (out), 2 SEL (in), 3 GND (power), 4 CLK (in), 5 VDD (power)
text: PDM / MOD; ADC

## MIC_SPH0641LM4H-1_2
designator U?
CLASS: IC
pins: 1 DAT (out), 2 SEL (in), 3 GND (power), 4 CLK (in), 5 VDD (power)
text: PDM / MOD; ADC

## MIC_SPH0641LM4H-1_3
designator U?
CLASS: IC
pins: 1 DAT (out), 2 SEL (in), 3 GND (power), 4 CLK (in), 5 VDD (power)
text: PDM / MOD; ADC

## MIC_SPH0641LM4H-1_4
designator U?
CLASS: IC
pins: 1 DAT (out), 2 SEL (in), 3 GND (power), 4 CLK (in), 5 VDD (power)
text: PDM / MOD; ADC

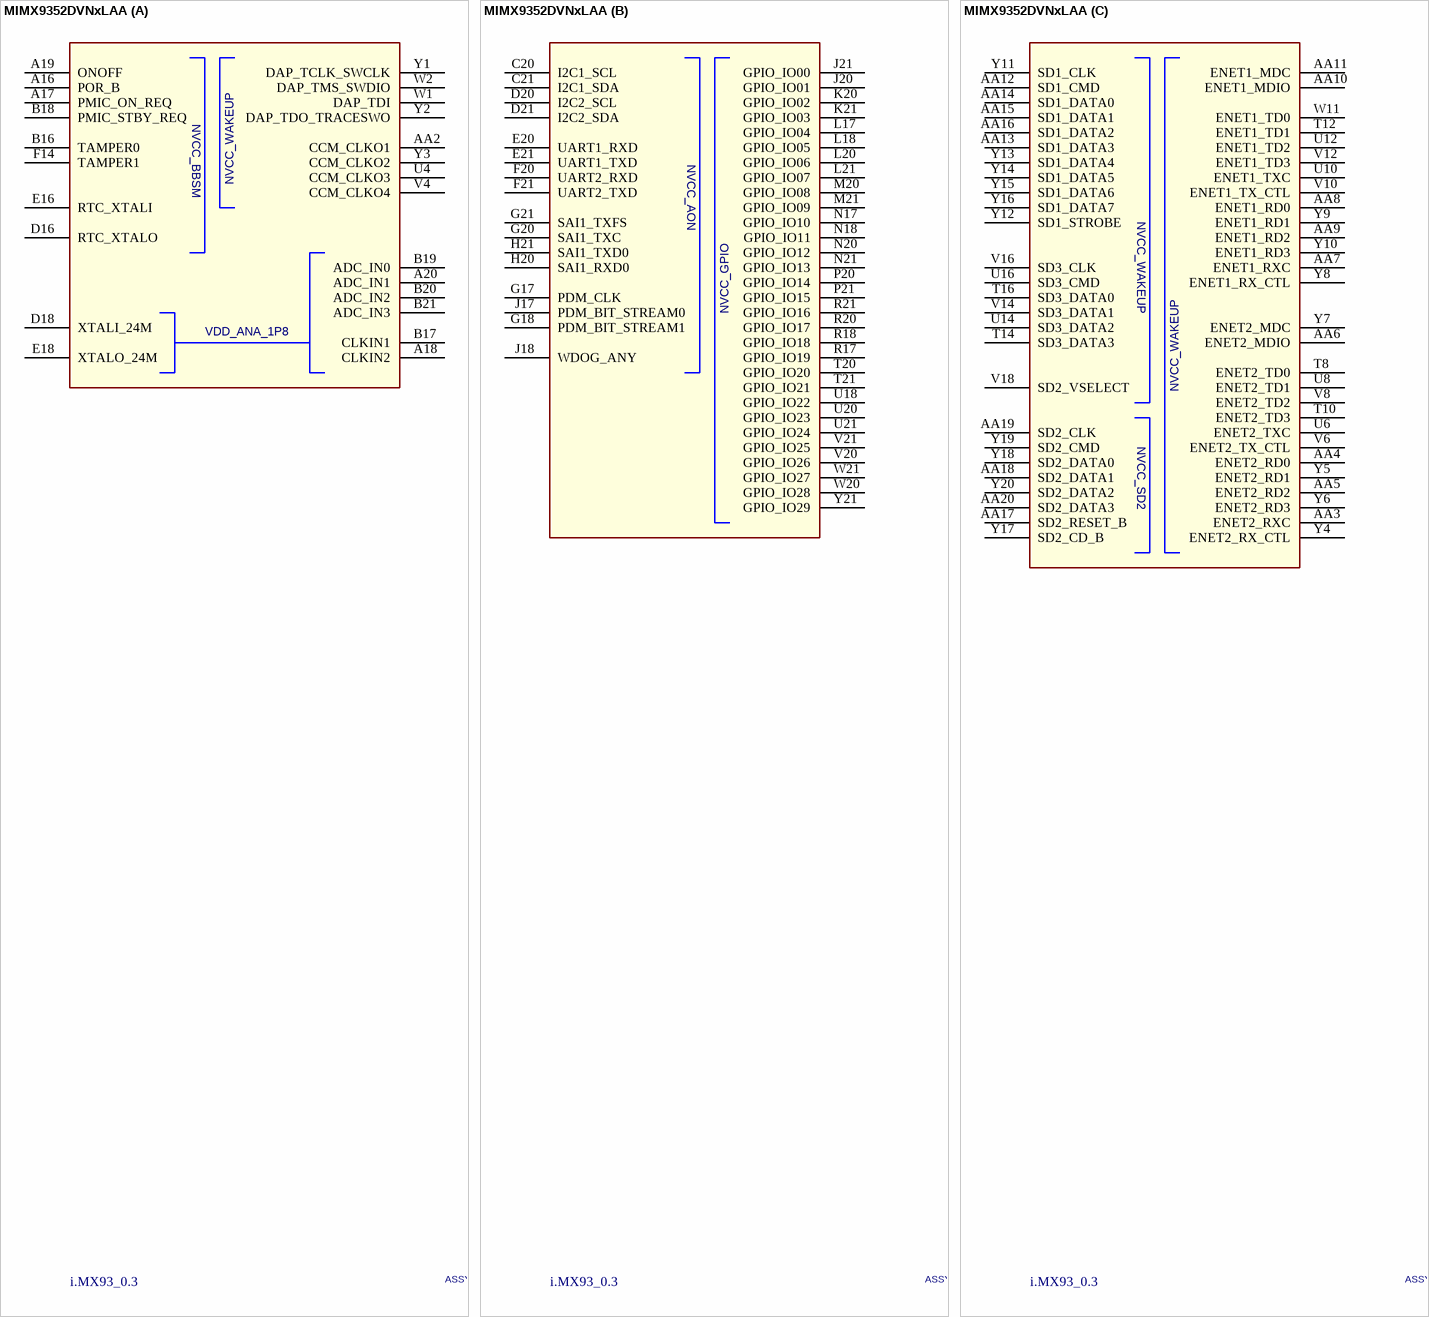
[diagram p5: symbol MIMX9352DVNxLAA]

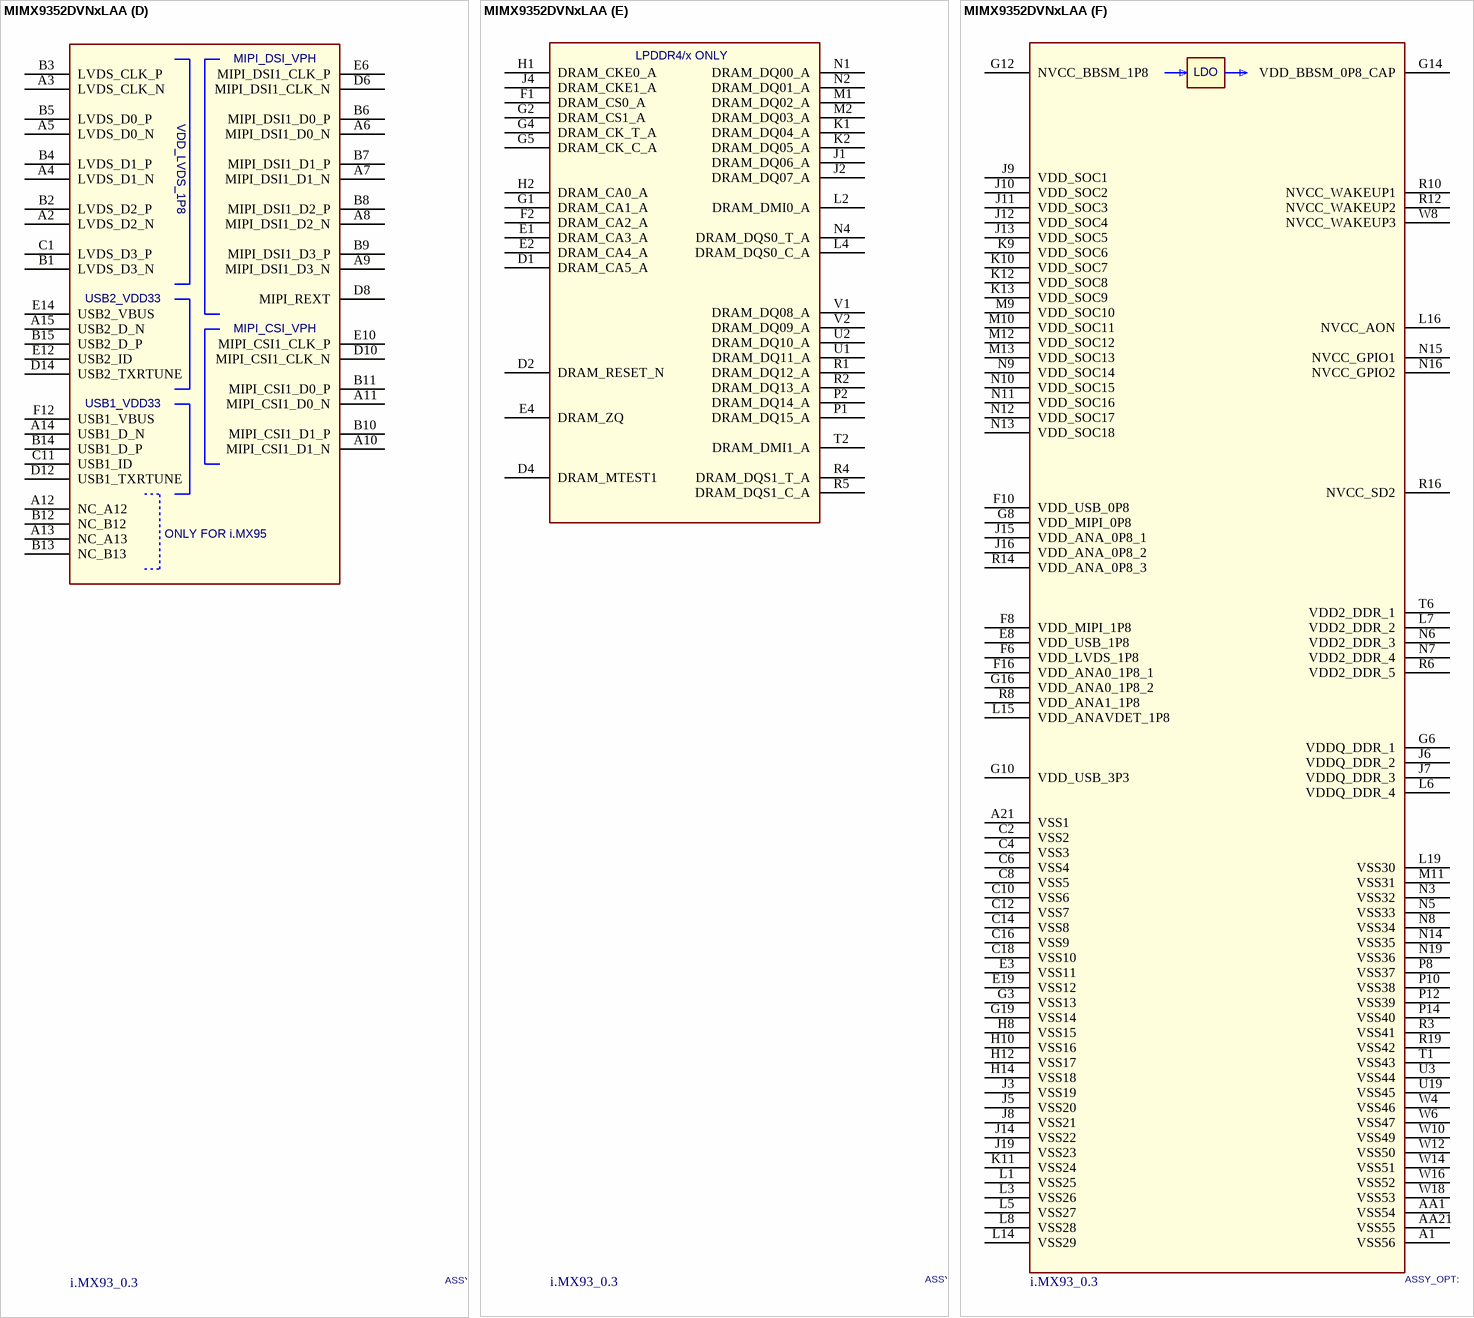
[diagram p6: symbol MIMX9352DVNxLAA]

## MIMX9352DVNxLAA
designator U?, comment i.MX93_0.3
CLASS: IC
footprint skt_bga306_0p5_s16p23_nsp
part A pins: A16 POR_B, A17 PMIC_ON_REQ, A18 CLKIN2, A19 ONOFF, A20 ADC_IN1, AA2 CCM_CLKO1, B16 TAMPER0, B17 CLKIN1, B18 PMIC_STBY_REQ, B19 ADC_IN0, B20 ADC_IN2, B21 ADC_IN3, D16 RTC_XTALO, D18 XTALI_24M, E16 RTC_XTALI, E18 XTALO_24M, F14 TAMPER1, U4 CCM_CLKO3, V4 CCM_CLKO4, W1 DAP_TDI, W2 DAP_TMS_SWDIO, Y1 DAP_TCLK_SWCLK, Y2 DAP_TDO_TRACESWO, Y3 CCM_CLKO2
part B pins: C20 I2C1_SCL, C21 I2C1_SDA, D20 I2C2_SCL, D21 I2C2_SDA, E20 UART1_RXD, E21 UART1_TXD, F20 UART2_RXD, F21 UART2_TXD, G17 PDM_CLK, G18 PDM_BIT_STREAM1, G20 SAI1_TXC, G21 SAI1_TXFS, H20 SAI1_RXD0, H21 SAI1_TXD0, J17 PDM_BIT_STREAM0, J18 WDOG_ANY, J20 GPIO_IO01, J21 GPIO_IO00, K20 GPIO_IO02, K21 GPIO_IO03, L17 GPIO_IO04, L18 GPIO_IO05, L20 GPIO_IO06, L21 GPIO_IO07, M20 GPIO_IO08, M21 GPIO_IO09, N17 GPIO_IO10, N18 GPIO_IO11, N20 GPIO_IO12, N21 GPIO_IO13, P20 GPIO_IO14, P21 GPIO_IO15, R17 GPIO_IO19, R18 GPIO_IO18, R20 GPIO_IO17, R21 GPIO_IO16, T20 GPIO_IO20, T21 GPIO_IO21, U18 GPIO_IO22, U20 GPIO_IO23, U21 GPIO_IO24, V20 GPIO_IO26, V21 GPIO_IO25, W20 GPIO_IO28, W21 GPIO_IO27, Y21 GPIO_IO29
part C pins: AA3 ENET2_RXC, AA4 ENET2_RD0, AA5 ENET2_RD2, AA6 ENET2_MDIO, AA7 ENET1_RXC, AA8 ENET1_RD0, AA9 ENET1_RD2, AA10 ENET1_MDIO, AA11 ENET1_MDC, AA12 SD1_CMD, AA13 SD1_DATA3, AA14 SD1_DATA0, AA15 SD1_DATA1, AA16 SD1_DATA2, AA17 SD2_RESET_B, AA18 SD2_DATA1, AA19 SD2_CLK, AA20 SD2_DATA3, T8 ENET2_TD0, T10 ENET2_TD3, T12 ENET1_TD1, T14 SD3_DATA3, T16 SD3_DATA0, U6 ENET2_TXC, U8 ENET2_TD1, U10 ENET1_TXC, U12 ENET1_TD2, U14 SD3_DATA2, U16 SD3_CMD, V6 ENET2_TX_CTL, V8 ENET2_TD2, V10 ENET1_TX_CTL, V12 ENET1_TD3, V14 SD3_DATA1, V16 SD3_CLK, V18 SD2_VSELECT, W11 ENET1_TD0, Y4 ENET2_RX_CTL, Y5 ENET2_RD1, Y6 ENET2_RD3, Y7 ENET2_MDC, Y8 ENET1_RX_CTL, Y9 ENET1_RD1, Y10 ENET1_RD3, Y11 SD1_CLK, Y12 SD1_STROBE, Y13 SD1_DATA4, Y14 SD1_DATA5, Y15 SD1_DATA6, Y16 SD1_DATA7, Y17 SD2_CD_B, Y18 SD2_DATA0, Y19 SD2_CMD, Y20 SD2_DATA2
part D pins: A2 LVDS_D2_N, A3 LVDS_CLK_N, A4 LVDS_D1_N, A5 LVDS_D0_N, A6 MIPI_DSI1_D0_N, A7 MIPI_DSI1_D1_N, A8 MIPI_DSI1_D2_N, A9 MIPI_DSI1_D3_N, A10 MIPI_CSI1_D1_N, A11 MIPI_CSI1_D0_N, A12 NC_A12, A13 NC_A13, A14 USB1_D_N, A15 USB2_D_N, B1 LVDS_D3_N, B2 LVDS_D2_P, B3 LVDS_CLK_P, B4 LVDS_D1_P, B5 LVDS_D0_P, B6 MIPI_DSI1_D0_P, B7 MIPI_DSI1_D1_P, B8 MIPI_DSI1_D2_P, B9 MIPI_DSI1_D3_P, B10 MIPI_CSI1_D1_P, B11 MIPI_CSI1_D0_P, B12 NC_B12, B13 NC_B13, B14 USB1_D_P, B15 USB2_D_P, C1 LVDS_D3_P, C11 USB1_ID, D6 MIPI_DSI1_CLK_N, D8 MIPI_REXT, D10 MIPI_CSI1_CLK_N, D12 USB1_TXRTUNE, D14 USB2_TXRTUNE, E6 MIPI_DSI1_CLK_P, E10 MIPI_CSI1_CLK_P, E12 USB2_ID, E14 USB2_VBUS, F12 USB1_VBUS
part E pins: D1 DRAM_CA5_A, D2 DRAM_RESET_N, D4 DRAM_MTEST1, E1 DRAM_CA3_A, E2 DRAM_CA4_A, E4 DRAM_ZQ, F1 DRAM_CS0_A, F2 DRAM_CA2_A, G1 DRAM_CA1_A, G2 DRAM_CS1_A, G4 DRAM_CK_T_A, G5 DRAM_CK_C_A, H1 DRAM_CKE0_A, H2 DRAM_CA0_A, J1 DRAM_DQ06_A, J2 DRAM_DQ07_A, J4 DRAM_CKE1_A, K1 DRAM_DQ04_A, K2 DRAM_DQ05_A, L2 DRAM_DMI0_A, L4 DRAM_DQS0_C_A, M1 DRAM_DQ02_A, M2 DRAM_DQ03_A, N1 DRAM_DQ00_A, N2 DRAM_DQ01_A, N4 DRAM_DQS0_T_A, P1 DRAM_DQ15_A, P2 DRAM_DQ14_A, R1 DRAM_DQ12_A, R2 DRAM_DQ13_A, R4 DRAM_DQS1_T_A, R5 DRAM_DQS1_C_A, T2 DRAM_DMI1_A, U1 DRAM_DQ11_A, U2 DRAM_DQ10_A, V1 DRAM_DQ08_A, V2 DRAM_DQ09_A
part F pins: A1 VSS56, A21 VSS1, AA1 VSS54, AA21 VSS55, C2 VSS2, C4 VSS3, C6 VSS4, C8 VSS5, C10 VSS6, C12 VSS7, C14 VSS8, C16 VSS9, C18 VSS10, E3 VSS11, E8 VDD_USB_1P8, E19 VSS12, F6 VDD_LVDS_1P8, F8 VDD_MIPI_1P8, F10 VDD_USB_0P8, F16 VDD_ANA0_1P8_1, G3 VSS13, G6 VDDQ_DDR_1, G8 VDD_MIPI_0P8, G10 VDD_USB_3P3, G12 NVCC_BBSM_1P8, G14 VDD_BBSM_0P8_CAP, G16 VDD_ANA0_1P8_2, G19 VSS14, H8 VSS15, H10 VSS16, H12 VSS17, H14 VSS18, J3 VSS19, J5 VSS20, J6 VDDQ_DDR_2, J7 VDDQ_DDR_3, J8 VSS21, J9 VDD_SOC1, J10 VDD_SOC2, J11 VDD_SOC3, J12 VDD_SOC4, J13 VDD_SOC5, J14 VSS22, J15 VDD_ANA_0P8_1, J16 VDD_ANA_0P8_2, J19 VSS23, K9 VDD_SOC6, K10 VDD_SOC7, K11 VSS24, K12 VDD_SOC8, K13 VDD_SOC9, L1 VSS25, L3 VSS26, L5 VSS27, L6 VDDQ_DDR_4, L7 VDD2_DDR_2, L8 VSS28, L14 VSS29, L15 VDD_ANAVDET_1P8, L16 NVCC_AON, L19 VSS30, M9 VDD_SOC10, M10 VDD_SOC11, M11 VSS31, M12 VDD_SOC12, M13 VDD_SOC13, N3 VSS32, N5 VSS33, N6 VDD2_DDR_3, N7 VDD2_DDR_4, N8 VSS34, N9 VDD_SOC14, N10 VDD_SOC15, N11 VDD_SOC16, N12 VDD_SOC17, N13 VDD_SOC18, N14 VSS35, N15 NVCC_GPIO1, N16 NVCC_GPIO2, N19 VSS36, P8 VSS37, P10 VSS38, P12 VSS39, P14 VSS40, R3 VSS41, R6 VDD2_DDR_5, R8 VDD_ANA1_1P8, R10 NVCC_WAKEUP1, R12 NVCC_WAKEUP2, R14 VDD_ANA_0P8_3, R16 NVCC_SD2, R19 VSS42, T1 VSS43, T6 VDD2_DDR_1, U3 VSS44, U19 VSS45, W4 VSS46, W6 VSS47, W8 NVCC_WAKEUP3, W10 VSS49, W12 VSS50, W14 VSS51, W16 VSS52, W18 VSS53
part A text: NVCC_BBSM; NVCC_WAKEUP; VDD_ANA_1P8
part B text: NVCC_GPIO
part C text: NVCC_WAKEUP
part D text: MIPI_DSI_VPH; USB2_VDD33; MIPI_CSI_VPH; USB1_VDD33; ONLY FOR i.MX95
part E text: LPDDR4/x ONLY
part F text: LDO

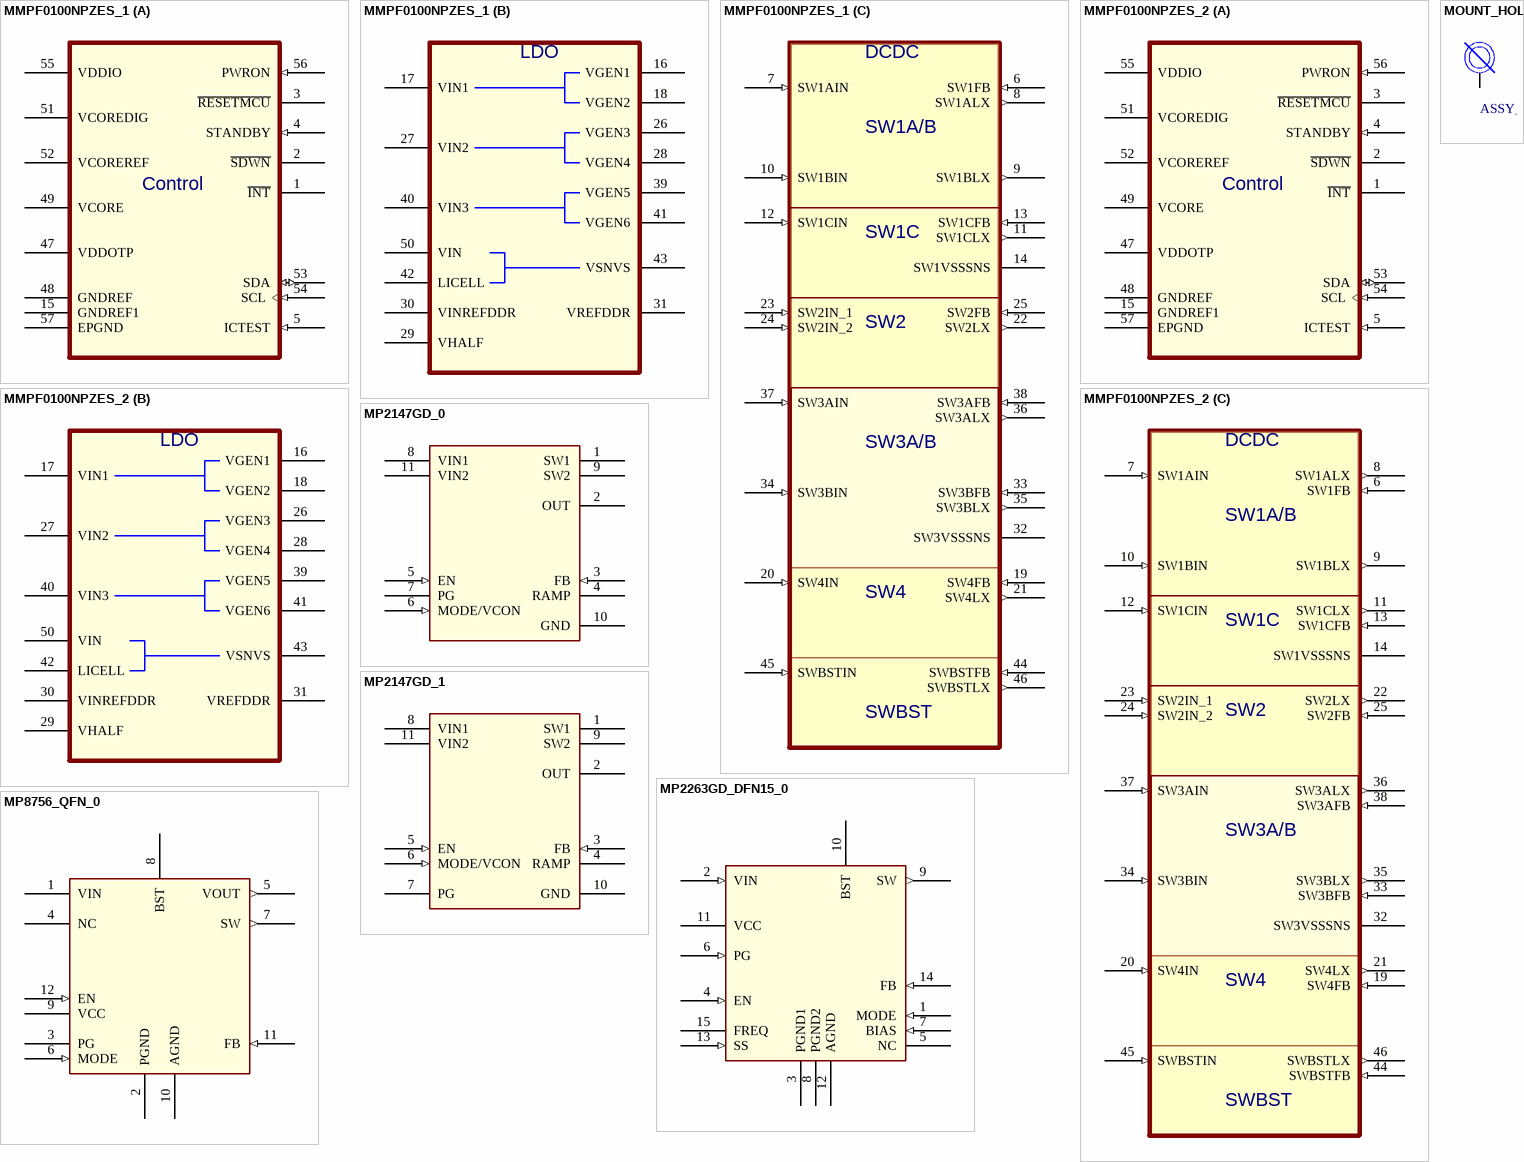
[diagram p7: symbols MMPF0100NPZES_1 to MP8756_QFN_0]

## MMPF0100NPZES_1
designator U?
CLASS: IC
footprint QFN56_0P5_8X8_EP4P1X4P4
part A pins: 1 ~{INT} (oc), 2 ~{SDWN} (oc), 3 ~{RESETMCU} (oc), 4 STANDBY (in), 5 ICTEST (in), 15 GNDREF1 (power), 47 VDDOTP (power), 48 GNDREF (power), 49 VCORE (power), 51 VCOREDIG (power), 52 VCOREREF (power), 53 SDA (io), 54 SCL (in), 55 VDDIO (power), 56 PWRON (in), 57 EPGND (power)
part B pins: 16 VGEN1 (power), 17 VIN1 (power), 18 VGEN2 (power), 26 VGEN3 (power), 27 VIN2 (power), 28 VGEN4 (power), 29 VHALF (power), 30 VINREFDDR (power), 31 VREFDDR (power), 39 VGEN5 (power), 40 VIN3 (power), 41 VGEN6 (power), 42 LICELL (power), 43 VSNVS (power), 50 VIN (power)
part C pins: 6 SW1FB (in), 7 SW1AIN (in), 8 SW1ALX (out), 9 SW1BLX (out), 10 SW1BIN (in), 11 SW1CLX (out), 12 SW1CIN (in), 13 SW1CFB (in), 14 SW1VSSSNS (power), 19 SW4FB (in), 20 SW4IN (in), 21 SW4LX (out), 22 SW2LX (out), 23 SW2IN_1 (in), 24 SW2IN_2 (in), 25 SW2FB (in), 32 SW3VSSSNS (power), 33 SW3BFB (in), 34 SW3BIN (in), 35 SW3BLX (out), 36 SW3ALX (out), 37 SW3AIN (in), 38 SW3AFB (in), 44 SWBSTFB (in), 45 SWBSTIN (in), 46 SWBSTLX (out)
part A text: Control
part B text: LDO
part C text: DCDC; SW1A/B; SW1C; SW2; SW3A/B; SW4; SWBST

## MMPF0100NPZES_2
designator U?
CLASS: IC
footprint QFN56_0P5_8X8_EP4P1X4P4
part A pins: 1 ~{INT} (oc), 2 ~{SDWN} (oc), 3 ~{RESETMCU} (oc), 4 STANDBY (in), 5 ICTEST (in), 15 GNDREF1 (power), 47 VDDOTP (power), 48 GNDREF (power), 49 VCORE (power), 51 VCOREDIG (power), 52 VCOREREF (power), 53 SDA (io), 54 SCL (in), 55 VDDIO (power), 56 PWRON (in), 57 EPGND (power)
part B pins: 16 VGEN1 (power), 17 VIN1 (power), 18 VGEN2 (power), 26 VGEN3 (power), 27 VIN2 (power), 28 VGEN4 (power), 29 VHALF (power), 30 VINREFDDR (power), 31 VREFDDR (power), 39 VGEN5 (power), 40 VIN3 (power), 41 VGEN6 (power), 42 LICELL (power), 43 VSNVS (power), 50 VIN (power)
part C pins: 6 SW1FB (in), 7 SW1AIN (in), 8 SW1ALX (out), 9 SW1BLX (out), 10 SW1BIN (in), 11 SW1CLX (out), 12 SW1CIN (in), 13 SW1CFB (in), 14 SW1VSSSNS (power), 19 SW4FB (in), 20 SW4IN (in), 21 SW4LX (out), 22 SW2LX (out), 23 SW2IN_1 (in), 24 SW2IN_2 (in), 25 SW2FB (in), 32 SW3VSSSNS (power), 33 SW3BFB (in), 34 SW3BIN (in), 35 SW3BLX (out), 36 SW3ALX (out), 37 SW3AIN (in), 38 SW3AFB (in), 44 SWBSTFB (in), 45 SWBSTIN (in), 46 SWBSTLX (out)
part A text: Control
part B text: LDO
part C text: DCDC; SW1A/B; SW1C; SW2; SW3A/B; SW4; SWBST

## MOUNT_HOLE
designator BH?
CLASS: IC
pins: 1

## MP2147GD_0
designator U?
CLASS: IC
pins: 1 SW1 (power), 2 OUT (power), 3 FB (in), 4 RAMP, 5 EN (in), 6 MODE/VCON (in), 7 PG (oc), 8 VIN1 (power), 9 SW2 (power), 10 GND (power), 11 VIN2 (power)

## MP2147GD_1
designator U?
CLASS: IC
pins: 1 SW1 (power), 2 OUT (power), 3 FB (in), 4 RAMP, 5 EN (in), 6 MODE/VCON (in), 7 PG (oc), 8 VIN1 (power), 9 SW2 (power), 10 GND (power), 11 VIN2 (power)

## MP2263GD_DFN15_0
designator U?
CLASS: IC
pins: 1 MODE (in), 2 VIN (in), 3 PGND1 (power), 4 EN (in), 5 NC, 6 PG (in), 7 BIAS (in), 8 PGND2 (power), 9 SW (out), 10 BST (power), 11 VCC (power), 12 AGND (power), 13 SS (in), 14 FB (in), 15 FREQ

## MP8756_QFN_0
designator U?
CLASS: IC
pins: 1 VIN (power), 2 PGND (power), 3 PG (oc), 4 NC, 5 VOUT (out), 6 MODE (in), 7 SW (out), 8 BST, 9 VCC (power), 10 AGND (power), 11 FB (in), 12 EN (in)

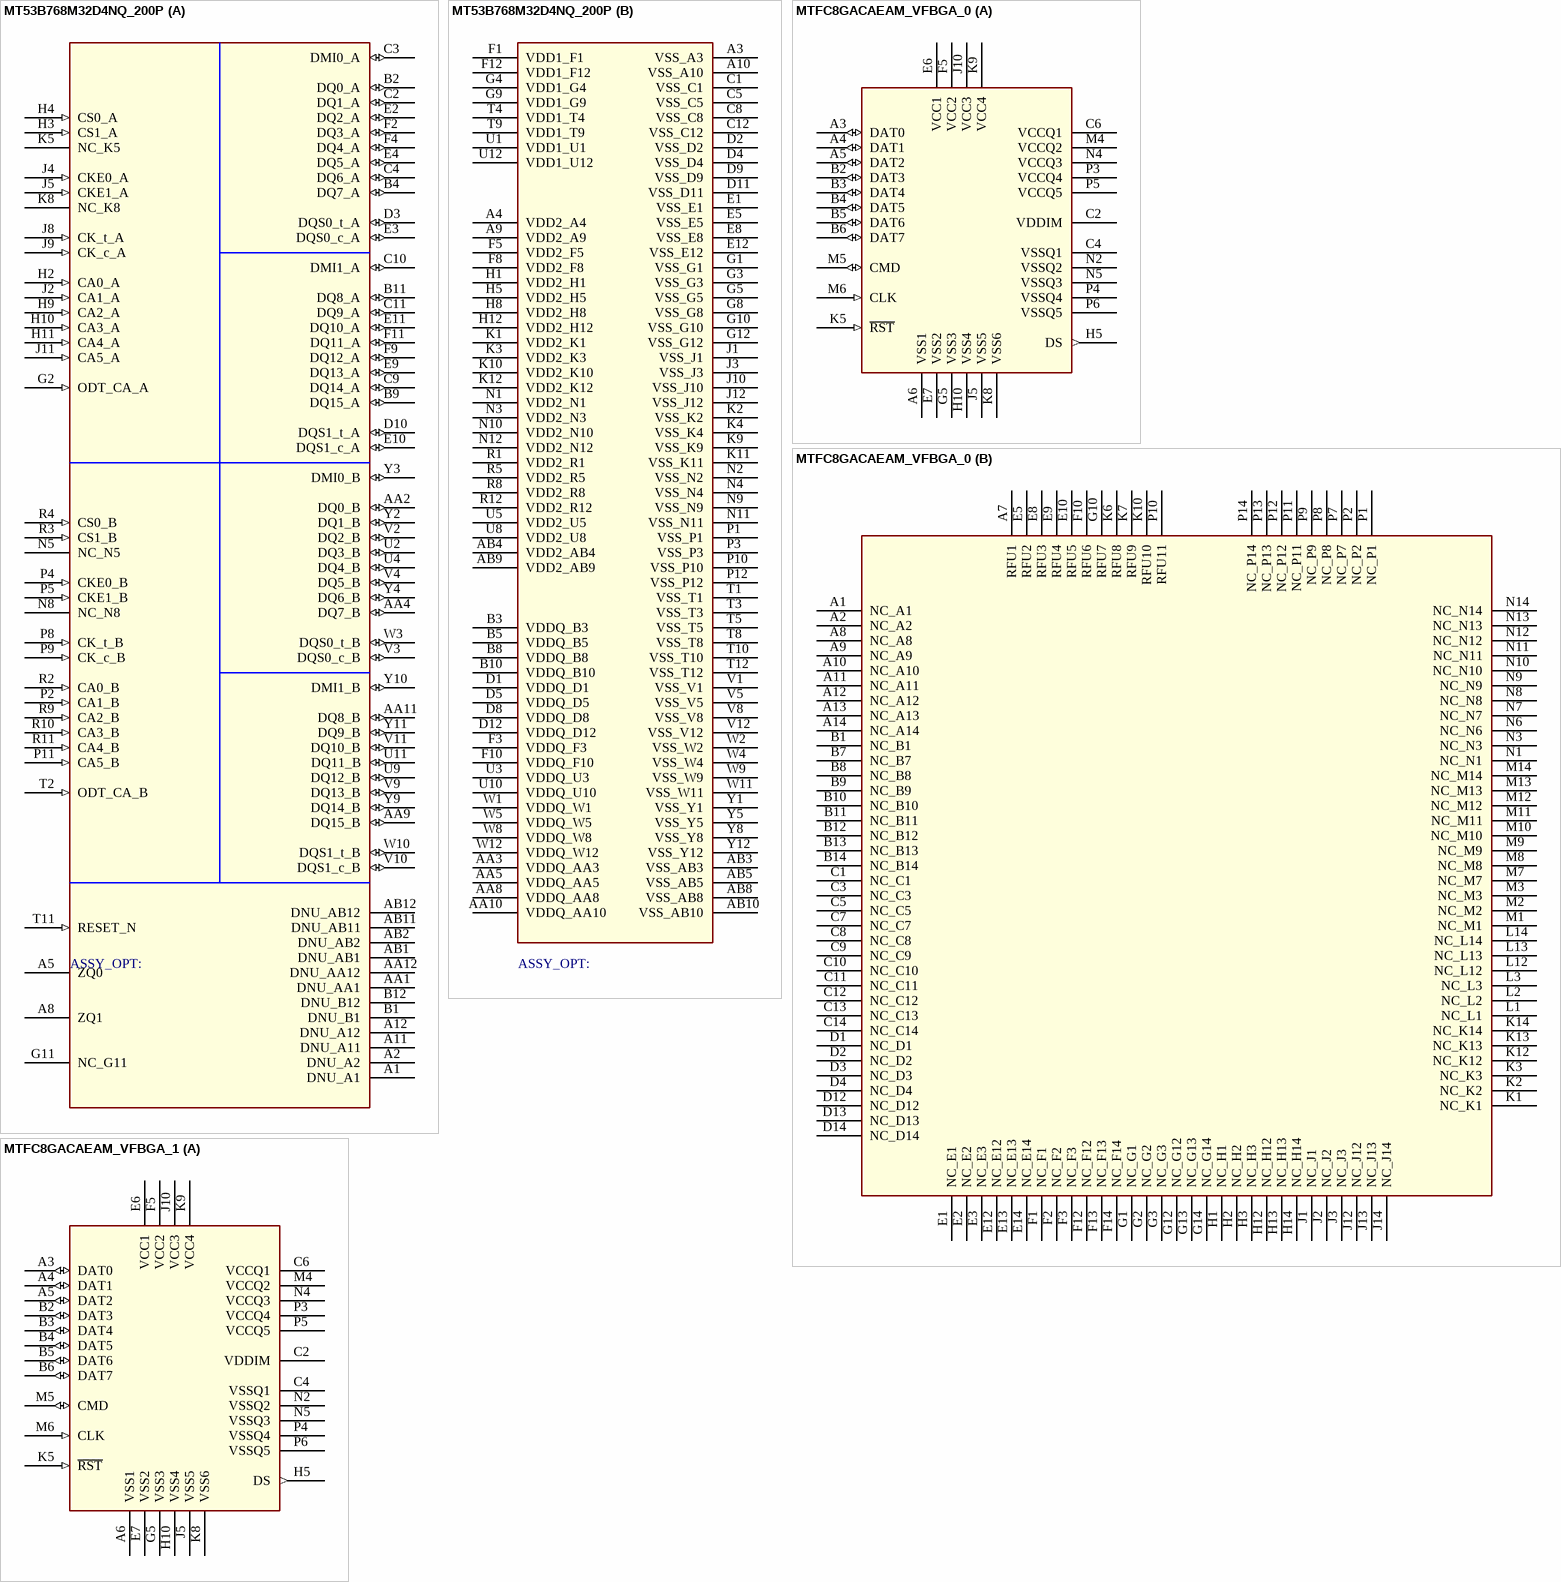
[diagram p8: symbols MT53B768M32D4NQ_200P to MTFC8GACAEAM_VFBGA_1]

## MT53B768M32D4NQ_200P
designator U?
CLASS: IC; SPLIT_INST: TRUE; SWAP_INFO: (S1+S2)
part A pins: A1 DNU_A1, A2 DNU_A2, A5 ZQ0, A8 ZQ1, A11 DNU_A11, A12 DNU_A12, AA1 DNU_AA1, AA2 DQ0_B (io), AA4 DQ7_B (io), AA9 DQ15_B (io), AA11 DQ8_B (io), AA12 DNU_AA12, AB1 DNU_AB1, AB2 DNU_AB2, AB11 DNU_AB11, AB12 DNU_AB12, B1 DNU_B1, B2 DQ0_A (io), B4 DQ7_A (io), B9 DQ15_A (io), B11 DQ8_A (io), B12 DNU_B12, C2 DQ1_A (io), C3 DMI0_A (io), C4 DQ6_A (io), C9 DQ14_A (io), C10 DMI1_A (io), C11 DQ9_A (io), D3 DQS0_t_A (io), D10 DQS1_t_A (io), E2 DQ2_A (io), E3 DQS0_c_A (io), E4 DQ5_A (io), E9 DQ13_A (io), E10 DQS1_c_A (io), E11 DQ10_A (io), F2 DQ3_A (io), F4 DQ4_A (io), F9 DQ12_A (io), F11 DQ11_A (io), G2 ODT_CA_A (in), G11 NC_G11, H2 CA0_A (in), H3 CS1_A (in), H4 CS0_A (in), H9 CA2_A (in), H10 CA3_A (in), H11 CA4_A (in), J2 CA1_A (in), J4 CKE0_A (in), J5 CKE1_A (in), J8 CK_t_A (in), J9 CK_c_A (in), J11 CA5_A (in), K5 NC_K5, K8 NC_K8, N5 NC_N5, N8 NC_N8, P2 CA1_B (in), P4 CKE0_B (in), P5 CKE1_B (in), P8 CK_t_B (in), P9 CK_c_B (in), P11 CA5_B (in), R2 CA0_B (in), R3 CS1_B (in), R4 CS0_B (in), R9 CA2_B (in), R10 CA3_B (in), R11 CA4_B (in), T2 ODT_CA_B (in), T11 RESET_N (in), U2 DQ3_B (io), U4 DQ4_B (io), U9 DQ12_B (io), U11 DQ11_B (io), V2 DQ2_B (io), V3 DQS0_c_B (io), V4 DQ5_B (io), V9 DQ13_B (io), V10 DQS1_c_B (io), V11 DQ10_B (io), W3 DQS0_t_B (io), W10 DQS1_t_B (io), Y2 DQ1_B (io), Y3 DMI0_B (io), Y4 DQ6_B (io), Y9 DQ14_B (io), Y10 DMI1_B (io), Y11 DQ9_B (io)
part B pins: A3 VSS_A3 (power), A4 VDD2_A4 (power), A9 VDD2_A9 (power), A10 VSS_A10 (power), AA3 VDDQ_AA3 (power), AA5 VDDQ_AA5 (power), AA8 VDDQ_AA8 (power), AA10 VDDQ_AA10 (power), AB3 VSS_AB3 (power), AB4 VDD2_AB4 (power), AB5 VSS_AB5 (power), AB8 VSS_AB8 (power), AB9 VDD2_AB9 (power), AB10 VSS_AB10 (power), B3 VDDQ_B3 (power), B5 VDDQ_B5 (power), B8 VDDQ_B8 (power), B10 VDDQ_B10 (power), C1 VSS_C1 (power), C5 VSS_C5 (power), C8 VSS_C8 (power), C12 VSS_C12 (power), D1 VDDQ_D1 (power), D2 VSS_D2 (power), D4 VSS_D4 (power), D5 VDDQ_D5 (power), D8 VDDQ_D8 (power), D9 VSS_D9 (power), D11 VSS_D11 (power), D12 VDDQ_D12 (power), E1 VSS_E1 (power), E5 VSS_E5 (power), E8 VSS_E8 (power), E12 VSS_E12 (power), F1 VDD1_F1 (power), F3 VDDQ_F3 (power), F5 VDD2_F5 (power), F8 VDD2_F8 (power), F10 VDDQ_F10 (power), F12 VDD1_F12 (power), G1 VSS_G1 (power), G3 VSS_G3 (power), G4 VDD1_G4 (power), G5 VSS_G5 (power), G8 VSS_G8 (power), G9 VDD1_G9 (power), G10 VSS_G10 (power), G12 VSS_G12 (power), H1 VDD2_H1 (power), H5 VDD2_H5 (power), H8 VDD2_H8 (power), H12 VDD2_H12 (power), J1 VSS_J1 (power), J3 VSS_J3 (power), J10 VSS_J10 (power), J12 VSS_J12 (power), K1 VDD2_K1 (power), K2 VSS_K2 (power), K3 VDD2_K3 (power), K4 VSS_K4 (power), K9 VSS_K9 (power), K10 VDD2_K10 (power), K11 VSS_K11 (power), K12 VDD2_K12 (power), N1 VDD2_N1 (power), N2 VSS_N2 (power), N3 VDD2_N3 (power), N4 VSS_N4 (power), N9 VSS_N9 (power), N10 VDD2_N10 (power), N11 VSS_N11 (power), N12 VDD2_N12 (power), P1 VSS_P1 (power), P3 VSS_P3 (power), P10 VSS_P10 (power), P12 VSS_P12 (power), R1 VDD2_R1 (power), R5 VDD2_R5 (power), R8 VDD2_R8 (power), R12 VDD2_R12 (power), T1 VSS_T1 (power), T3 VSS_T3 (power), T4 VDD1_T4 (power), T5 VSS_T5 (power), T8 VSS_T8 (power), T9 VDD1_T9 (power), T10 VSS_T10 (power), T12 VSS_T12 (power), U1 VDD1_U1 (power), U3 VDDQ_U3 (power), U5 VDD2_U5 (power), U8 VDD2_U8 (power), U10 VDDQ_U10 (power), U12 VDD1_U12 (power), V1 VSS_V1 (power), V5 VSS_V5 (power), V8 VSS_V8 (power), V12 VSS_V12 (power), W1 VDDQ_W1 (power), W2 VSS_W2 (power), W4 VSS_W4 (power), W5 VDDQ_W5 (power), W8 VDDQ_W8 (power), W9 VSS_W9 (power), W11 VSS_W11 (power), W12 VDDQ_W12 (power), Y1 VSS_Y1 (power), Y5 VSS_Y5 (power), Y8 VSS_Y8 (power), Y12 VSS_Y12 (power)

## MTFC8GACAEAM_VFBGA_0
designator U?
CLASS: IC
footprint WFBGA153
part A pins: A3 DAT0 (io), A4 DAT1 (io), A5 DAT2 (io), A6 VSS1 (power), B2 DAT3 (io), B3 DAT4 (io), B4 DAT5 (io), B5 DAT6 (io), B6 DAT7 (io), C2 VDDIM (power), C4 VSSQ1 (power), C6 VCCQ1 (power), E6 VCC1 (power), E7 VSS2 (power), F5 VCC2 (power), G5 VSS3 (power), H5 DS (out), H10 VSS4 (power), J5 VSS5 (power), J10 VCC3 (power), K5 ~{RST} (in), K8 VSS6 (power), K9 VCC4 (power), M4 VCCQ2 (power), M5 CMD (io), M6 CLK (in), N2 VSSQ2 (power), N4 VCCQ3 (power), N5 VSSQ3 (power), P3 VCCQ4 (power), P4 VSSQ4 (power), P5 VCCQ5 (power), P6 VSSQ5 (power)
part B pins: A1 NC_A1, A2 NC_A2, A7 RFU1, A8 NC_A8, A9 NC_A9, A10 NC_A10, A11 NC_A11, A12 NC_A12, A13 NC_A13, A14 NC_A14, B1 NC_B1, B7 NC_B7, B8 NC_B8, B9 NC_B9, B10 NC_B10, B11 NC_B11, B12 NC_B12, B13 NC_B13, B14 NC_B14, C1 NC_C1, C3 NC_C3, C5 NC_C5, C7 NC_C7, C8 NC_C8, C9 NC_C9, C10 NC_C10, C11 NC_C11, C12 NC_C12, C13 NC_C13, C14 NC_C14, D1 NC_D1, D2 NC_D2, D3 NC_D3, D4 NC_D4, D12 NC_D12, D13 NC_D13, D14 NC_D14, E1 NC_E1, E2 NC_E2, E3 NC_E3, E5 RFU2, E8 RFU3, E9 RFU4, E10 RFU5, E12 NC_E12, E13 NC_E13, E14 NC_E14, F1 NC_F1, F2 NC_F2, F3 NC_F3, F10 RFU6, F12 NC_F12, F13 NC_F13, F14 NC_F14, G1 NC_G1, G2 NC_G2, G3 NC_G3, G10 RFU7, G12 NC_G12, G13 NC_G13, G14 NC_G14, H1 NC_H1, H2 NC_H2, H3 NC_H3, H12 NC_H12, H13 NC_H13, H14 NC_H14, J1 NC_J1, J2 NC_J2, J3 NC_J3, J12 NC_J12, J13 NC_J13, J14 NC_J14, K1 NC_K1, K2 NC_K2, K3 NC_K3, K6 RFU8, K7 RFU9, K10 RFU10, K12 NC_K12, K13 NC_K13, K14 NC_K14, L1 NC_L1, L2 NC_L2, L3 NC_L3, L12 NC_L12, L13 NC_L13, L14 NC_L14, M1 NC_M1, M2 NC_M2, M3 NC_M3, M7 NC_M7, M8 NC_M8, M9 NC_M9, M10 NC_M10, M11 NC_M11, M12 NC_M12, M13 NC_M13, M14 NC_M14, N1 NC_N1, N3 NC_N3, N6 NC_N6, N7 NC_N7, N8 NC_N8, N9 NC_N9, N10 NC_N10, N11 NC_N11, N12 NC_N12, N13 NC_N13, N14 NC_N14, P1 NC_P1, P2 NC_P2, P7 NC_P7, P8 NC_P8, P9 NC_P9, P10 RFU11, P11 NC_P11, P12 NC_P12, P13 NC_P13, P14 NC_P14

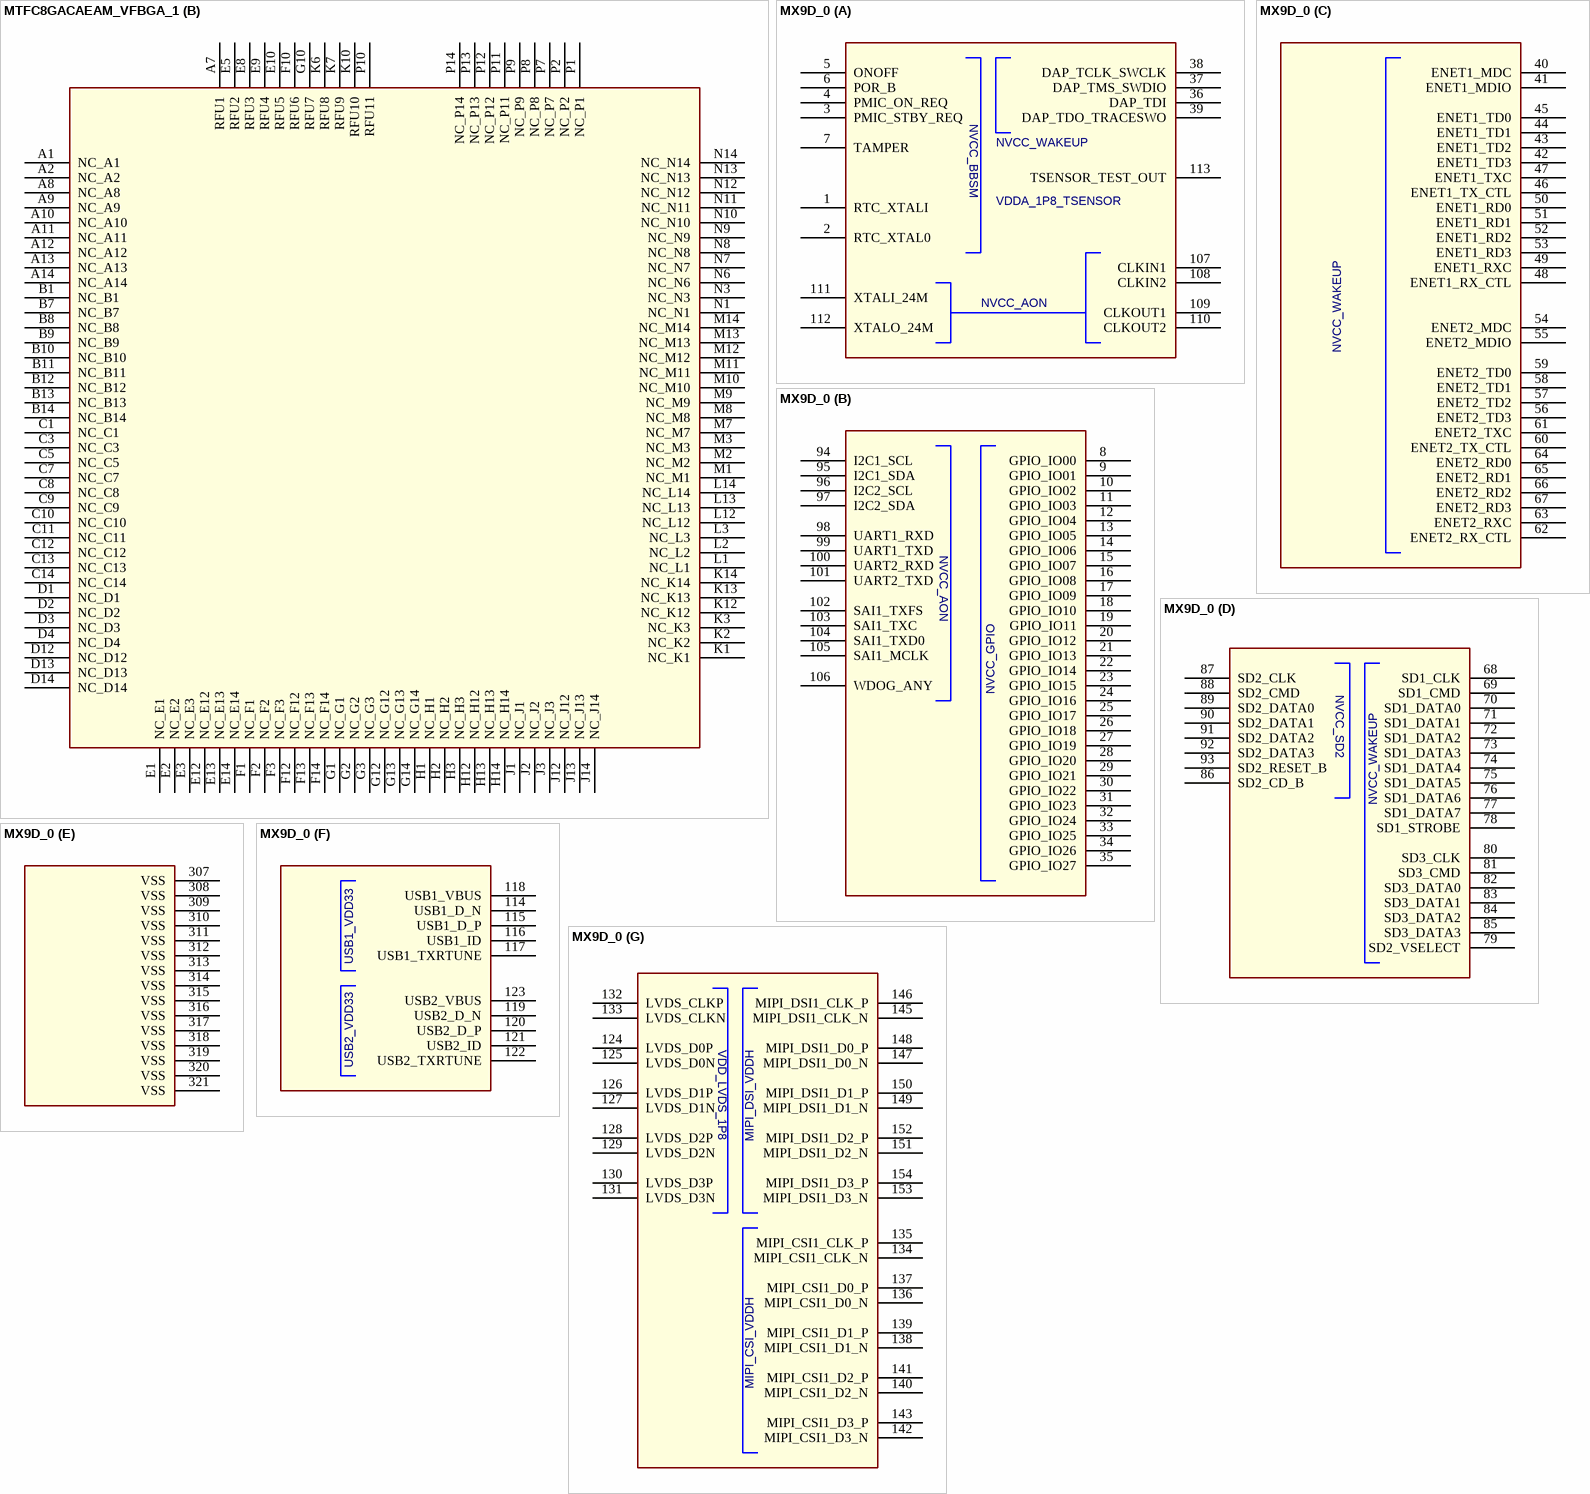
[diagram p9: symbols MTFC8GACAEAM_VFBGA_1 to MX9D_0]

## MTFC8GACAEAM_VFBGA_1
designator U?
CLASS: IC
footprint WFBGA153
part A pins: A3 DAT0 (io), A4 DAT1 (io), A5 DAT2 (io), A6 VSS1 (power), B2 DAT3 (io), B3 DAT4 (io), B4 DAT5 (io), B5 DAT6 (io), B6 DAT7 (io), C2 VDDIM (power), C4 VSSQ1 (power), C6 VCCQ1 (power), E6 VCC1 (power), E7 VSS2 (power), F5 VCC2 (power), G5 VSS3 (power), H5 DS (out), H10 VSS4 (power), J5 VSS5 (power), J10 VCC3 (power), K5 ~{RST} (in), K8 VSS6 (power), K9 VCC4 (power), M4 VCCQ2 (power), M5 CMD (io), M6 CLK (in), N2 VSSQ2 (power), N4 VCCQ3 (power), N5 VSSQ3 (power), P3 VCCQ4 (power), P4 VSSQ4 (power), P5 VCCQ5 (power), P6 VSSQ5 (power)
part B pins: A1 NC_A1, A2 NC_A2, A7 RFU1, A8 NC_A8, A9 NC_A9, A10 NC_A10, A11 NC_A11, A12 NC_A12, A13 NC_A13, A14 NC_A14, B1 NC_B1, B7 NC_B7, B8 NC_B8, B9 NC_B9, B10 NC_B10, B11 NC_B11, B12 NC_B12, B13 NC_B13, B14 NC_B14, C1 NC_C1, C3 NC_C3, C5 NC_C5, C7 NC_C7, C8 NC_C8, C9 NC_C9, C10 NC_C10, C11 NC_C11, C12 NC_C12, C13 NC_C13, C14 NC_C14, D1 NC_D1, D2 NC_D2, D3 NC_D3, D4 NC_D4, D12 NC_D12, D13 NC_D13, D14 NC_D14, E1 NC_E1, E2 NC_E2, E3 NC_E3, E5 RFU2, E8 RFU3, E9 RFU4, E10 RFU5, E12 NC_E12, E13 NC_E13, E14 NC_E14, F1 NC_F1, F2 NC_F2, F3 NC_F3, F10 RFU6, F12 NC_F12, F13 NC_F13, F14 NC_F14, G1 NC_G1, G2 NC_G2, G3 NC_G3, G10 RFU7, G12 NC_G12, G13 NC_G13, G14 NC_G14, H1 NC_H1, H2 NC_H2, H3 NC_H3, H12 NC_H12, H13 NC_H13, H14 NC_H14, J1 NC_J1, J2 NC_J2, J3 NC_J3, J12 NC_J12, J13 NC_J13, J14 NC_J14, K1 NC_K1, K2 NC_K2, K3 NC_K3, K6 RFU8, K7 RFU9, K10 RFU10, K12 NC_K12, K13 NC_K13, K14 NC_K14, L1 NC_L1, L2 NC_L2, L3 NC_L3, L12 NC_L12, L13 NC_L13, L14 NC_L14, M1 NC_M1, M2 NC_M2, M3 NC_M3, M7 NC_M7, M8 NC_M8, M9 NC_M9, M10 NC_M10, M11 NC_M11, M12 NC_M12, M13 NC_M13, M14 NC_M14, N1 NC_N1, N3 NC_N3, N6 NC_N6, N7 NC_N7, N8 NC_N8, N9 NC_N9, N10 NC_N10, N11 NC_N11, N12 NC_N12, N13 NC_N13, N14 NC_N14, P1 NC_P1, P2 NC_P2, P7 NC_P7, P8 NC_P8, P9 NC_P9, P10 RFU11, P11 NC_P11, P12 NC_P12, P13 NC_P13, P14 NC_P14

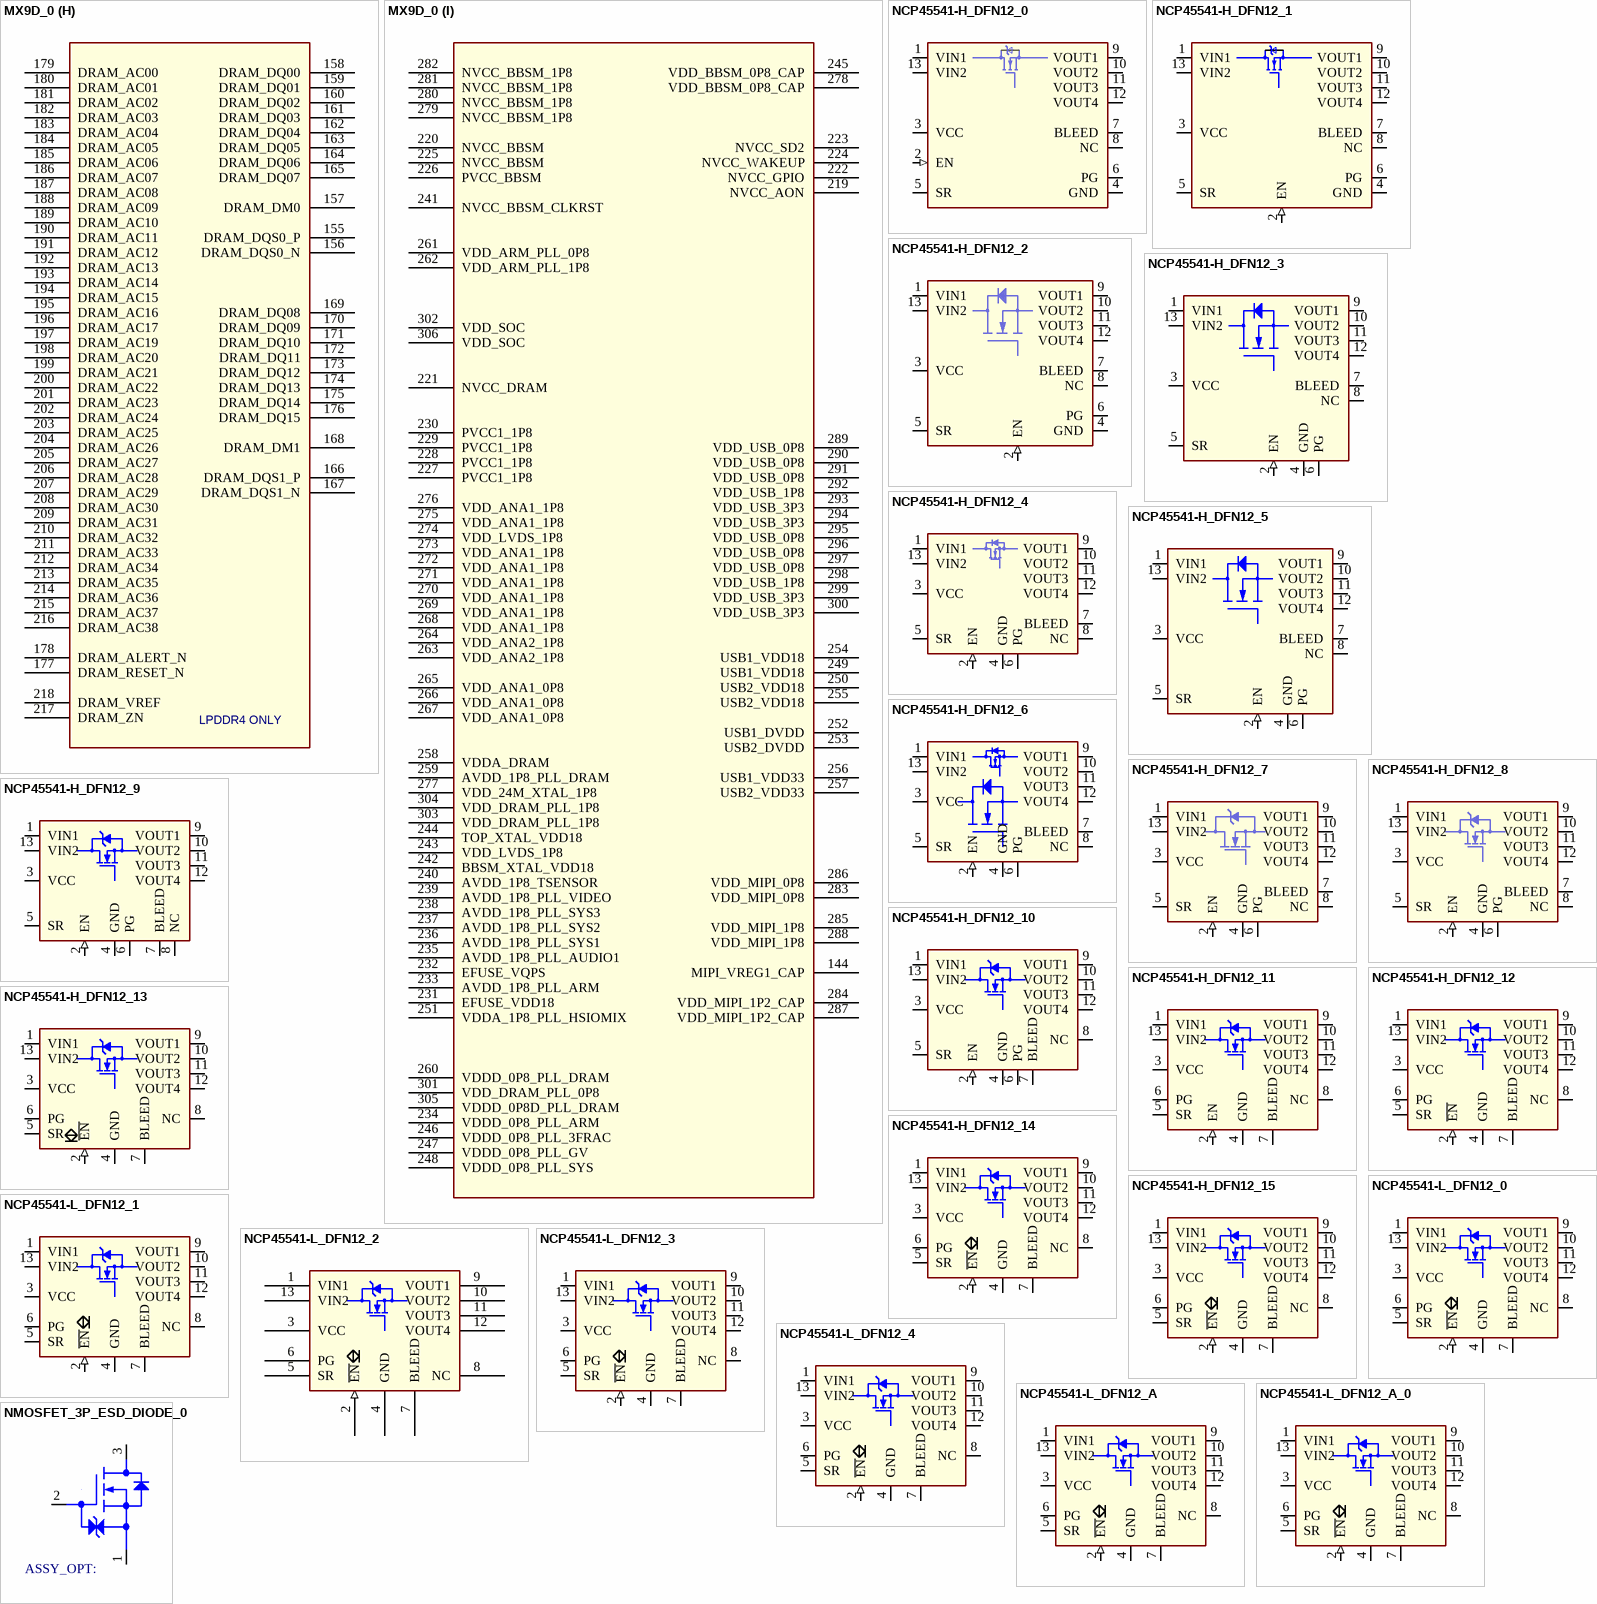
[diagram p10: symbols MX9D_0 to NMOSFET_3P_ESD_DIODE_0]

## MX9D_0
designator U?
SWAP_INFO: (S1+S2+S3+S4+S5+S6+S7+S8+S9); SPLIT_INST: TRUE
part A pins: 1 RTC_XTALI, 2 RTC_XTAL0, 3 PMIC_STBY_REQ, 4 PMIC_ON_REQ, 5 ONOFF, 6 POR_B, 7 TAMPER, 36 DAP_TDI, 37 DAP_TMS_SWDIO, 38 DAP_TCLK_SWCLK, 39 DAP_TDO_TRACESWO, 107 CLKIN1, 108 CLKIN2, 109 CLKOUT1, 110 CLKOUT2, 111 XTALI_24M, 112 XTALO_24M, 113 TSENSOR_TEST_OUT
part B pins: 8 GPIO_IO00, 9 GPIO_IO01, 10 GPIO_IO02, 11 GPIO_IO03, 12 GPIO_IO04, 13 GPIO_IO05, 14 GPIO_IO06, 15 GPIO_IO07, 16 GPIO_IO08, 17 GPIO_IO09, 18 GPIO_IO10, 19 GPIO_IO11, 20 GPIO_IO12, 21 GPIO_IO13, 22 GPIO_IO14, 23 GPIO_IO15, 24 GPIO_IO16, 25 GPIO_IO17, 26 GPIO_IO18, 27 GPIO_IO19, 28 GPIO_IO20, 29 GPIO_IO21, 30 GPIO_IO22, 31 GPIO_IO23, 32 GPIO_IO24, 33 GPIO_IO25, 34 GPIO_IO26, 35 GPIO_IO27, 94 I2C1_SCL, 95 I2C1_SDA, 96 I2C2_SCL, 97 I2C2_SDA, 98 UART1_RXD, 99 UART1_TXD, 100 UART2_RXD, 101 UART2_TXD, 102 SAI1_TXFS, 103 SAI1_TXC, 104 SAI1_TXD0, 105 SAI1_MCLK, 106 WDOG_ANY
part C pins: 40 ENET1_MDC, 41 ENET1_MDIO, 42 ENET1_TD3, 43 ENET1_TD2, 44 ENET1_TD1, 45 ENET1_TD0, 46 ENET1_TX_CTL, 47 ENET1_TXC, 48 ENET1_RX_CTL, 49 ENET1_RXC, 50 ENET1_RD0, 51 ENET1_RD1, 52 ENET1_RD2, 53 ENET1_RD3, 54 ENET2_MDC, 55 ENET2_MDIO, 56 ENET2_TD3, 57 ENET2_TD2, 58 ENET2_TD1, 59 ENET2_TD0, 60 ENET2_TX_CTL, 61 ENET2_TXC, 62 ENET2_RX_CTL, 63 ENET2_RXC, 64 ENET2_RD0, 65 ENET2_RD1, 66 ENET2_RD2, 67 ENET2_RD3
part D pins: 68 SD1_CLK, 69 SD1_CMD, 70 SD1_DATA0, 71 SD1_DATA1, 72 SD1_DATA2, 73 SD1_DATA3, 74 SD1_DATA4, 75 SD1_DATA5, 76 SD1_DATA6, 77 SD1_DATA7, 78 SD1_STROBE, 79 SD2_VSELECT, 80 SD3_CLK, 81 SD3_CMD, 82 SD3_DATA0, 83 SD3_DATA1, 84 SD3_DATA2, 85 SD3_DATA3, 86 SD2_CD_B, 87 SD2_CLK, 88 SD2_CMD, 89 SD2_DATA0, 90 SD2_DATA1, 91 SD2_DATA2, 92 SD2_DATA3, 93 SD2_RESET_B
part E pins: 307 VSS, 308 VSS, 309 VSS, 310 VSS, 311 VSS, 312 VSS, 313 VSS, 314 VSS, 315 VSS, 316 VSS, 317 VSS, 318 VSS, 319 VSS, 320 VSS, 321 VSS
part F pins: 114 USB1_D_N, 115 USB1_D_P, 116 USB1_ID, 117 USB1_TXRTUNE, 118 USB1_VBUS, 119 USB2_D_N, 120 USB2_D_P, 121 USB2_ID, 122 USB2_TXRTUNE, 123 USB2_VBUS
part G pins: 124 LVDS_D0P, 125 LVDS_D0N, 126 LVDS_D1P, 127 LVDS_D1N, 128 LVDS_D2P, 129 LVDS_D2N, 130 LVDS_D3P, 131 LVDS_D3N, 132 LVDS_CLKP, 133 LVDS_CLKN, 134 MIPI_CSI1_CLK_N, 135 MIPI_CSI1_CLK_P, 136 MIPI_CSI1_D0_N, 137 MIPI_CSI1_D0_P, 138 MIPI_CSI1_D1_N, 139 MIPI_CSI1_D1_P, 140 MIPI_CSI1_D2_N, 141 MIPI_CSI1_D2_P, 142 MIPI_CSI1_D3_N, 143 MIPI_CSI1_D3_P, 145 MIPI_DSI1_CLK_N, 146 MIPI_DSI1_CLK_P, 147 MIPI_DSI1_D0_N, 148 MIPI_DSI1_D0_P, 149 MIPI_DSI1_D1_N, 150 MIPI_DSI1_D1_P, 151 MIPI_DSI1_D2_N, 152 MIPI_DSI1_D2_P, 153 MIPI_DSI1_D3_N, 154 MIPI_DSI1_D3_P
part H pins: 155 DRAM_DQS0_P, 156 DRAM_DQS0_N, 157 DRAM_DM0, 158 DRAM_DQ00, 159 DRAM_DQ01, 160 DRAM_DQ02, 161 DRAM_DQ03, 162 DRAM_DQ04, 163 DRAM_DQ05, 164 DRAM_DQ06, 165 DRAM_DQ07, 166 DRAM_DQS1_P, 167 DRAM_DQS1_N, 168 DRAM_DM1, 169 DRAM_DQ08, 170 DRAM_DQ09, 171 DRAM_DQ10, 172 DRAM_DQ11, 173 DRAM_DQ12, 174 DRAM_DQ13, 175 DRAM_DQ14, 176 DRAM_DQ15, 177 DRAM_RESET_N, 178 DRAM_ALERT_N, 179 DRAM_AC00, 180 DRAM_AC01, 181 DRAM_AC02, 182 DRAM_AC03, 183 DRAM_AC04, 184 DRAM_AC05, 185 DRAM_AC06, 186 DRAM_AC07, 187 DRAM_AC08, 188 DRAM_AC09, 189 DRAM_AC10, 190 DRAM_AC11, 191 DRAM_AC12, 192 DRAM_AC13, 193 DRAM_AC14, 194 DRAM_AC15, 195 DRAM_AC16, 196 DRAM_AC17, 197 DRAM_AC19, 198 DRAM_AC20, 199 DRAM_AC21, 200 DRAM_AC22, 201 DRAM_AC23, 202 DRAM_AC24, 203 DRAM_AC25, 204 DRAM_AC26, 205 DRAM_AC27, 206 DRAM_AC28, 207 DRAM_AC29, 208 DRAM_AC30, 209 DRAM_AC31, 210 DRAM_AC32, 211 DRAM_AC33, 212 DRAM_AC34, 213 DRAM_AC35, 214 DRAM_AC36, 215 DRAM_AC37, 216 DRAM_AC38, 217 DRAM_ZN, 218 DRAM_VREF
part I pins: 144 MIPI_VREG1_CAP, 219 NVCC_AON, 220 NVCC_BBSM, 221 NVCC_DRAM, 222 NVCC_GPIO, 223 NVCC_SD2, 224 NVCC_WAKEUP, 225 NVCC_BBSM, 226 PVCC_BBSM, 227 PVCC1_1P8, 228 PVCC1_1P8, 229 PVCC1_1P8, 230 PVCC1_1P8, 231 EFUSE_VDD18, 232 EFUSE_VQPS, 233 AVDD_1P8_PLL_ARM, 234 VDDD_0P8_PLL_ARM, 235 AVDD_1P8_PLL_AUDIO1, 236 AVDD_1P8_PLL_SYS1, 237 AVDD_1P8_PLL_SYS2, 238 AVDD_1P8_PLL_SYS3, 239 AVDD_1P8_PLL_VIDEO, 240 AVDD_1P8_TSENSOR, 241 NVCC_BBSM_CLKRST, 242 BBSM_XTAL_VDD18, 243 VDD_LVDS_1P8, 244 TOP_XTAL_VDD18, 245 VDD_BBSM_0P8_CAP, 246 VDDD_0P8_PLL_3FRAC, 247 VDDD_0P8_PLL_GV, 248 VDDD_0P8_PLL_SYS, 249 USB1_VDD18, 250 USB2_VDD18, 251 VDDA_1P8_PLL_HSIOMIX, 252 USB1_DVDD, 253 USB2_DVDD, 254 USB1_VDD18, 255 USB2_VDD18, 256 USB1_VDD33, 257 USB2_VDD33, 258 VDDA_DRAM, 259 AVDD_1P8_PLL_DRAM, 260 VDDD_0P8_PLL_DRAM, 261 VDD_ARM_PLL_0P8, 262 VDD_ARM_PLL_1P8, 263 VDD_ANA2_1P8, 264 VDD_ANA2_1P8, 265 VDD_ANA1_0P8, 266 VDD_ANA1_0P8, 267 VDD_ANA1_0P8, 268 VDD_ANA1_1P8, 269 VDD_ANA1_1P8, 270 VDD_ANA1_1P8, 271 VDD_ANA1_1P8, 272 VDD_ANA1_1P8, 273 VDD_ANA1_1P8, 274 VDD_LVDS_1P8, 275 VDD_ANA1_1P8, 276 VDD_ANA1_1P8, 277 VDD_24M_XTAL_1P8, 278 VDD_BBSM_0P8_CAP, 279 NVCC_BBSM_1P8, 280 NVCC_BBSM_1P8, 281 NVCC_BBSM_1P8, 282 NVCC_BBSM_1P8, 283 VDD_MIPI_0P8, 284 VDD_MIPI_1P2_CAP, 285 VDD_MIPI_1P8, 286 VDD_MIPI_0P8, 287 VDD_MIPI_1P2_CAP, 288 VDD_MIPI_1P8, 289 VDD_USB_0P8, 290 VDD_USB_0P8, 291 VDD_USB_0P8, 292 VDD_USB_1P8, 293 VDD_USB_3P3, 294 VDD_USB_3P3, 295 VDD_USB_0P8, 296 VDD_USB_0P8, 297 VDD_USB_0P8, 298 VDD_USB_1P8, 299 VDD_USB_3P3, 300 VDD_USB_3P3, 301 VDD_DRAM_PLL_0P8, 302 VDD_SOC, 303 VDD_DRAM_PLL_1P8, 304 VDD_DRAM_PLL_1P8, 305 VDDD_0P8D_PLL_DRAM, 306 VDD_SOC
part A text: VDDA_1P8_TSENSOR
part G text: MIPI_DSI_VDDH; MIPI_CSI_VDDH
part H text: LPDDR4 ONLY

## NCP45541-H_DFN12_0
designator U?
CLASS: IC
pins: 1 VIN1 (power), 2 EN (in), 3 VCC (power), 4 GND (power), 5 SR, 6 PG (oc), 7 BLEED, 8 NC, 9 VOUT1 (power), 10 VOUT2 (power), 11 VOUT3 (power), 12 VOUT4 (power), 13 VIN2 (power)

## NCP45541-H_DFN12_1
designator U?
CLASS: IC
pins: 1 VIN1 (power), 2 EN (in), 3 VCC (power), 4 GND (power), 5 SR, 6 PG (oc), 7 BLEED, 8 NC, 9 VOUT1 (power), 10 VOUT2 (power), 11 VOUT3 (power), 12 VOUT4 (power), 13 VIN2 (power)

## NCP45541-H_DFN12_2
designator U?
CLASS: IC
pins: 1 VIN1 (power), 2 EN (in), 3 VCC (power), 4 GND (power), 5 SR, 6 PG (oc), 7 BLEED, 8 NC, 9 VOUT1 (power), 10 VOUT2 (power), 11 VOUT3 (power), 12 VOUT4 (power), 13 VIN2 (power)

## NCP45541-H_DFN12_3
designator U?
CLASS: IC
pins: 1 VIN1 (power), 2 EN (in), 3 VCC (power), 4 GND (power), 5 SR, 6 PG (oc), 7 BLEED, 8 NC, 9 VOUT1 (power), 10 VOUT2 (power), 11 VOUT3 (power), 12 VOUT4 (power), 13 VIN2 (power)

## NCP45541-H_DFN12_4
designator U?
CLASS: IC
pins: 1 VIN1 (power), 2 EN (in), 3 VCC (power), 4 GND (power), 5 SR, 6 PG (oc), 7 BLEED, 8 NC, 9 VOUT1 (power), 10 VOUT2 (power), 11 VOUT3 (power), 12 VOUT4 (power), 13 VIN2 (power)

## NCP45541-H_DFN12_5
designator U?
CLASS: IC
pins: 1 VIN1 (power), 2 EN (in), 3 VCC (power), 4 GND (power), 5 SR, 6 PG (oc), 7 BLEED, 8 NC, 9 VOUT1 (power), 10 VOUT2 (power), 11 VOUT3 (power), 12 VOUT4 (power), 13 VIN2 (power)

## NCP45541-H_DFN12_6
designator U?
CLASS: IC
pins: 1 VIN1 (power), 2 EN (in), 3 VCC (power), 4 GND (power), 5 SR, 6 PG (oc), 7 BLEED, 8 NC, 9 VOUT1 (power), 10 VOUT2 (power), 11 VOUT3 (power), 12 VOUT4 (power), 13 VIN2 (power)

## NCP45541-H_DFN12_7
designator U?
CLASS: IC
pins: 1 VIN1 (power), 2 EN (in), 3 VCC (power), 4 GND (power), 5 SR, 6 PG (oc), 7 BLEED, 8 NC, 9 VOUT1 (power), 10 VOUT2 (power), 11 VOUT3 (power), 12 VOUT4 (power), 13 VIN2 (power)

## NCP45541-H_DFN12_8
designator U?
CLASS: IC
pins: 1 VIN1 (power), 2 EN (in), 3 VCC (power), 4 GND (power), 5 SR, 6 PG (oc), 7 BLEED, 8 NC, 9 VOUT1 (power), 10 VOUT2 (power), 11 VOUT3 (power), 12 VOUT4 (power), 13 VIN2 (power)

## NCP45541-H_DFN12_9
designator U?
CLASS: IC
pins: 1 VIN1 (power), 2 EN (in), 3 VCC (power), 4 GND (power), 5 SR, 6 PG (oc), 7 BLEED, 8 NC, 9 VOUT1 (power), 10 VOUT2 (power), 11 VOUT3 (power), 12 VOUT4 (power), 13 VIN2 (power)

## NCP45541-H_DFN12_10
designator U?
CLASS: IC
pins: 1 VIN1 (power), 2 EN (in), 3 VCC (power), 4 GND (power), 5 SR, 6 PG (oc), 7 BLEED, 8 NC, 9 VOUT1 (power), 10 VOUT2 (power), 11 VOUT3 (power), 12 VOUT4 (power), 13 VIN2 (power)

## NCP45541-H_DFN12_11
designator U?
CLASS: IC
pins: 1 VIN1 (power), 2 EN (in), 3 VCC (power), 4 GND (power), 5 SR, 6 PG (oc), 7 BLEED, 8 NC, 9 VOUT1 (power), 10 VOUT2 (power), 11 VOUT3 (power), 12 VOUT4 (power), 13 VIN2 (power)

## NCP45541-H_DFN12_12
designator U?
CLASS: IC
pins: 1 VIN1 (power), 2 ~{EN} (in), 3 VCC (power), 4 GND (power), 5 SR, 6 PG (oc), 7 BLEED, 8 NC, 9 VOUT1 (power), 10 VOUT2 (power), 11 VOUT3 (power), 12 VOUT4 (power), 13 VIN2 (power)

## NCP45541-H_DFN12_13
designator U?
CLASS: IC
pins: 1 VIN1 (power), 2 ~{EN} (in), 3 VCC (power), 4 GND (power), 5 SR, 6 PG (oc), 7 BLEED, 8 NC, 9 VOUT1 (power), 10 VOUT2 (power), 11 VOUT3 (power), 12 VOUT4 (power), 13 VIN2 (power)

## NCP45541-H_DFN12_14
designator U?
CLASS: IC
pins: 1 VIN1 (power), 2 ~{EN} (in), 3 VCC (power), 4 GND (power), 5 SR, 6 PG (oc), 7 BLEED, 8 NC, 9 VOUT1 (power), 10 VOUT2 (power), 11 VOUT3 (power), 12 VOUT4 (power), 13 VIN2 (power)

## NCP45541-H_DFN12_15
designator U?
CLASS: IC
pins: 1 VIN1 (power), 2 ~{EN} (in), 3 VCC (power), 4 GND (power), 5 SR, 6 PG (oc), 7 BLEED, 8 NC, 9 VOUT1 (power), 10 VOUT2 (power), 11 VOUT3 (power), 12 VOUT4 (power), 13 VIN2 (power)

## NCP45541-L_DFN12_0
designator U?
CLASS: IC
pins: 1 VIN1 (power), 2 ~{EN} (in), 3 VCC (power), 4 GND (power), 5 SR, 6 PG (oc), 7 BLEED, 8 NC, 9 VOUT1 (power), 10 VOUT2 (power), 11 VOUT3 (power), 12 VOUT4 (power), 13 VIN2 (power)

## NCP45541-L_DFN12_1
designator U?
CLASS: IC
pins: 1 VIN1 (power), 2 ~{EN} (in), 3 VCC (power), 4 GND (power), 5 SR, 6 PG (oc), 7 BLEED, 8 NC, 9 VOUT1 (power), 10 VOUT2 (power), 11 VOUT3 (power), 12 VOUT4 (power), 13 VIN2 (power)

## NCP45541-L_DFN12_2
designator U?
CLASS: IC
pins: 1 VIN1 (power), 2 ~{EN} (in), 3 VCC (power), 4 GND (power), 5 SR, 6 PG (oc), 7 BLEED, 8 NC, 9 VOUT1 (power), 10 VOUT2 (power), 11 VOUT3 (power), 12 VOUT4 (power), 13 VIN2 (power)

## NCP45541-L_DFN12_3
designator U?
CLASS: IC
pins: 1 VIN1 (power), 2 ~{EN} (in), 3 VCC (power), 4 GND (power), 5 SR, 6 PG (oc), 7 BLEED, 8 NC, 9 VOUT1 (power), 10 VOUT2 (power), 11 VOUT3 (power), 12 VOUT4 (power), 13 VIN2 (power)

## NCP45541-L_DFN12_4
designator U?
CLASS: IC
pins: 1 VIN1 (power), 2 ~{EN} (in), 3 VCC (power), 4 GND (power), 5 SR, 6 PG (oc), 7 BLEED, 8 NC, 9 VOUT1 (power), 10 VOUT2 (power), 11 VOUT3 (power), 12 VOUT4 (power), 13 VIN2 (power)

## NCP45541-L_DFN12_A
designator U?
CLASS: IC
pins: 1 VIN1 (power), 2 ~{EN} (in), 3 VCC (power), 4 GND (power), 5 SR, 6 PG (oc), 7 BLEED, 8 NC, 9 VOUT1 (power), 10 VOUT2 (power), 11 VOUT3 (power), 12 VOUT4 (power), 13 VIN2 (power)

## NCP45541-L_DFN12_A_0
designator U?
CLASS: IC
pins: 1 VIN1 (power), 2 ~{EN} (in), 3 VCC (power), 4 GND (power), 5 SR, 6 PG (oc), 7 BLEED, 8 NC, 9 VOUT1 (power), 10 VOUT2 (power), 11 VOUT3 (power), 12 VOUT4 (power), 13 VIN2 (power)

## NMOSFET_3P_ESD_DIODE_0
designator Q?
CLASS: IC
pins: 1 SOURCE, 2 GATE, 3 DRAIN

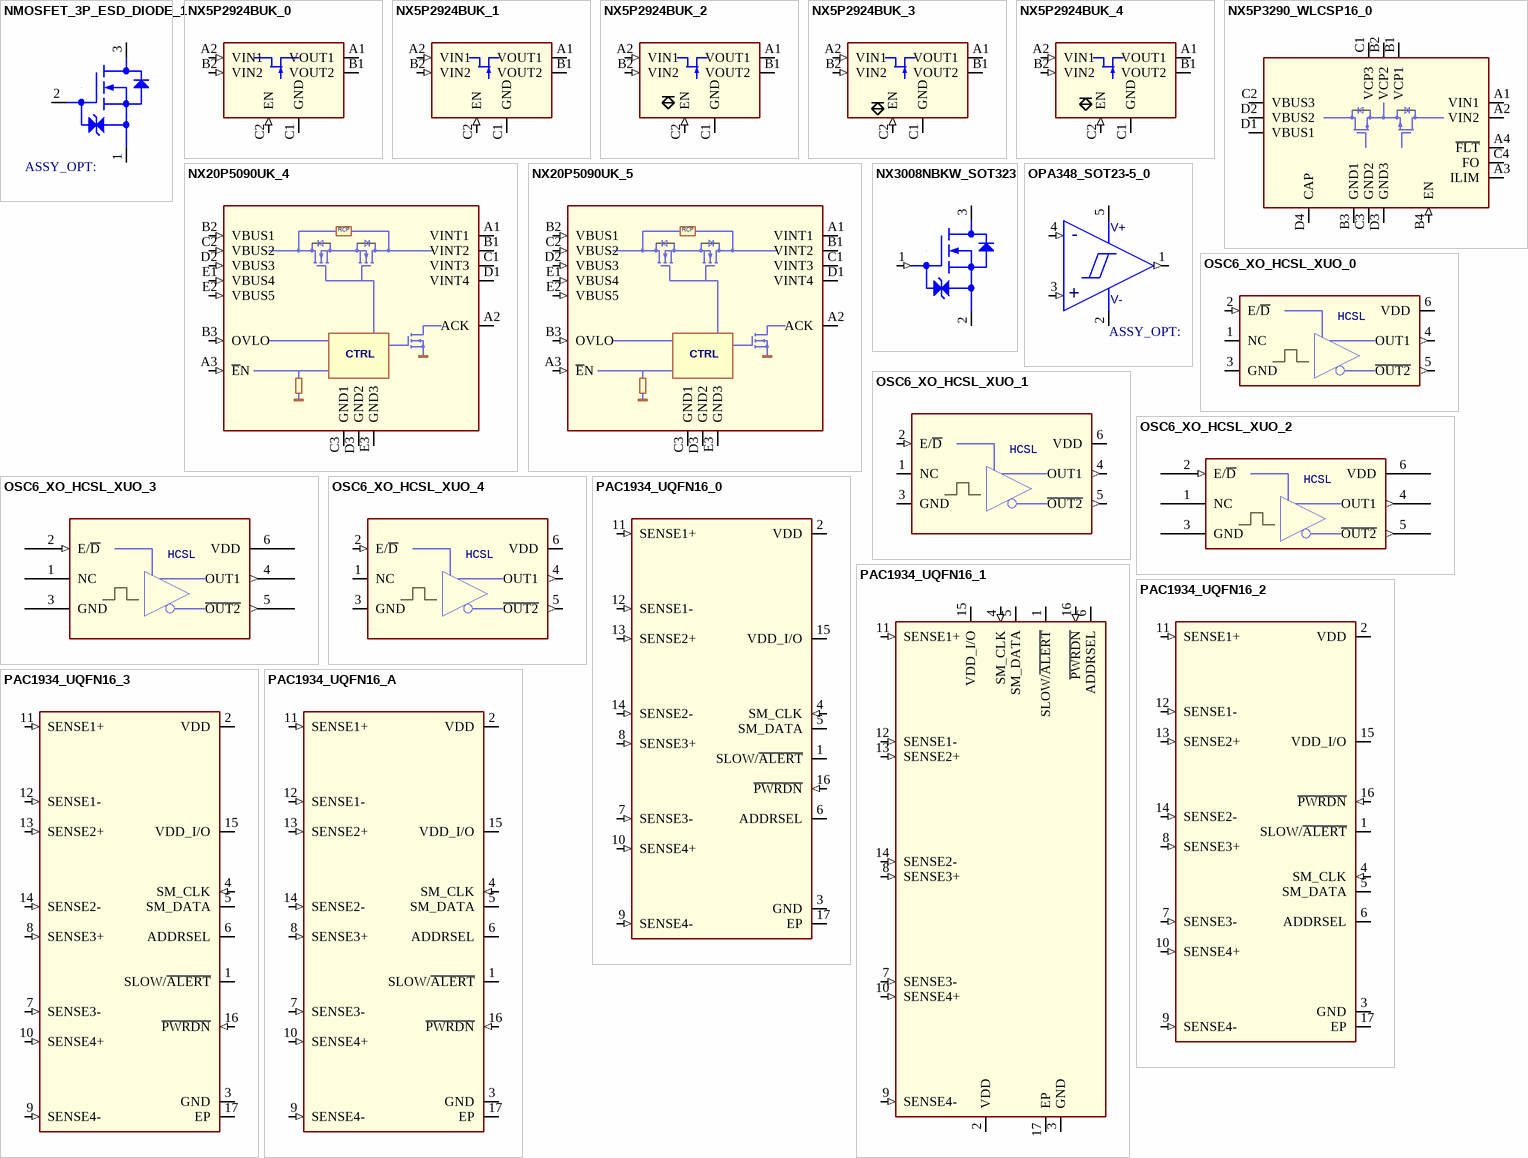
[diagram p11: symbols NMOSFET_3P_ESD_DIODE_1 to PAC1934_UQFN16_A]

## NMOSFET_3P_ESD_DIODE_1
designator Q?
CLASS: IC
pins: 1 SOURCE, 2 GATE, 3 DRAIN

## NX5P2924BUK_0
designator U?
CLASS: IC
footprint WLCSP6
pins: A1 VOUT1 (power), A2 VIN1 (in), B1 VOUT2 (power), B2 VIN2 (in), C1 GND (power), C2 EN (in)

## NX5P2924BUK_1
designator U?
CLASS: IC
footprint WLCSP6
pins: A1 VOUT1 (power), A2 VIN1 (in), B1 VOUT2 (power), B2 VIN2 (in), C1 GND (power), C2 EN (in)

## NX5P2924BUK_2
designator U?
CLASS: IC
footprint WLCSP6
pins: A1 VOUT1 (power), A2 VIN1 (in), B1 VOUT2 (power), B2 VIN2 (in), C1 GND (power), C2 EN (in)